# Altium integrated library micro-motorola.IntLib: 92 symbols (part 1 of 2)
Pins are listed as number, name and electrical type; pins without a type are passive.

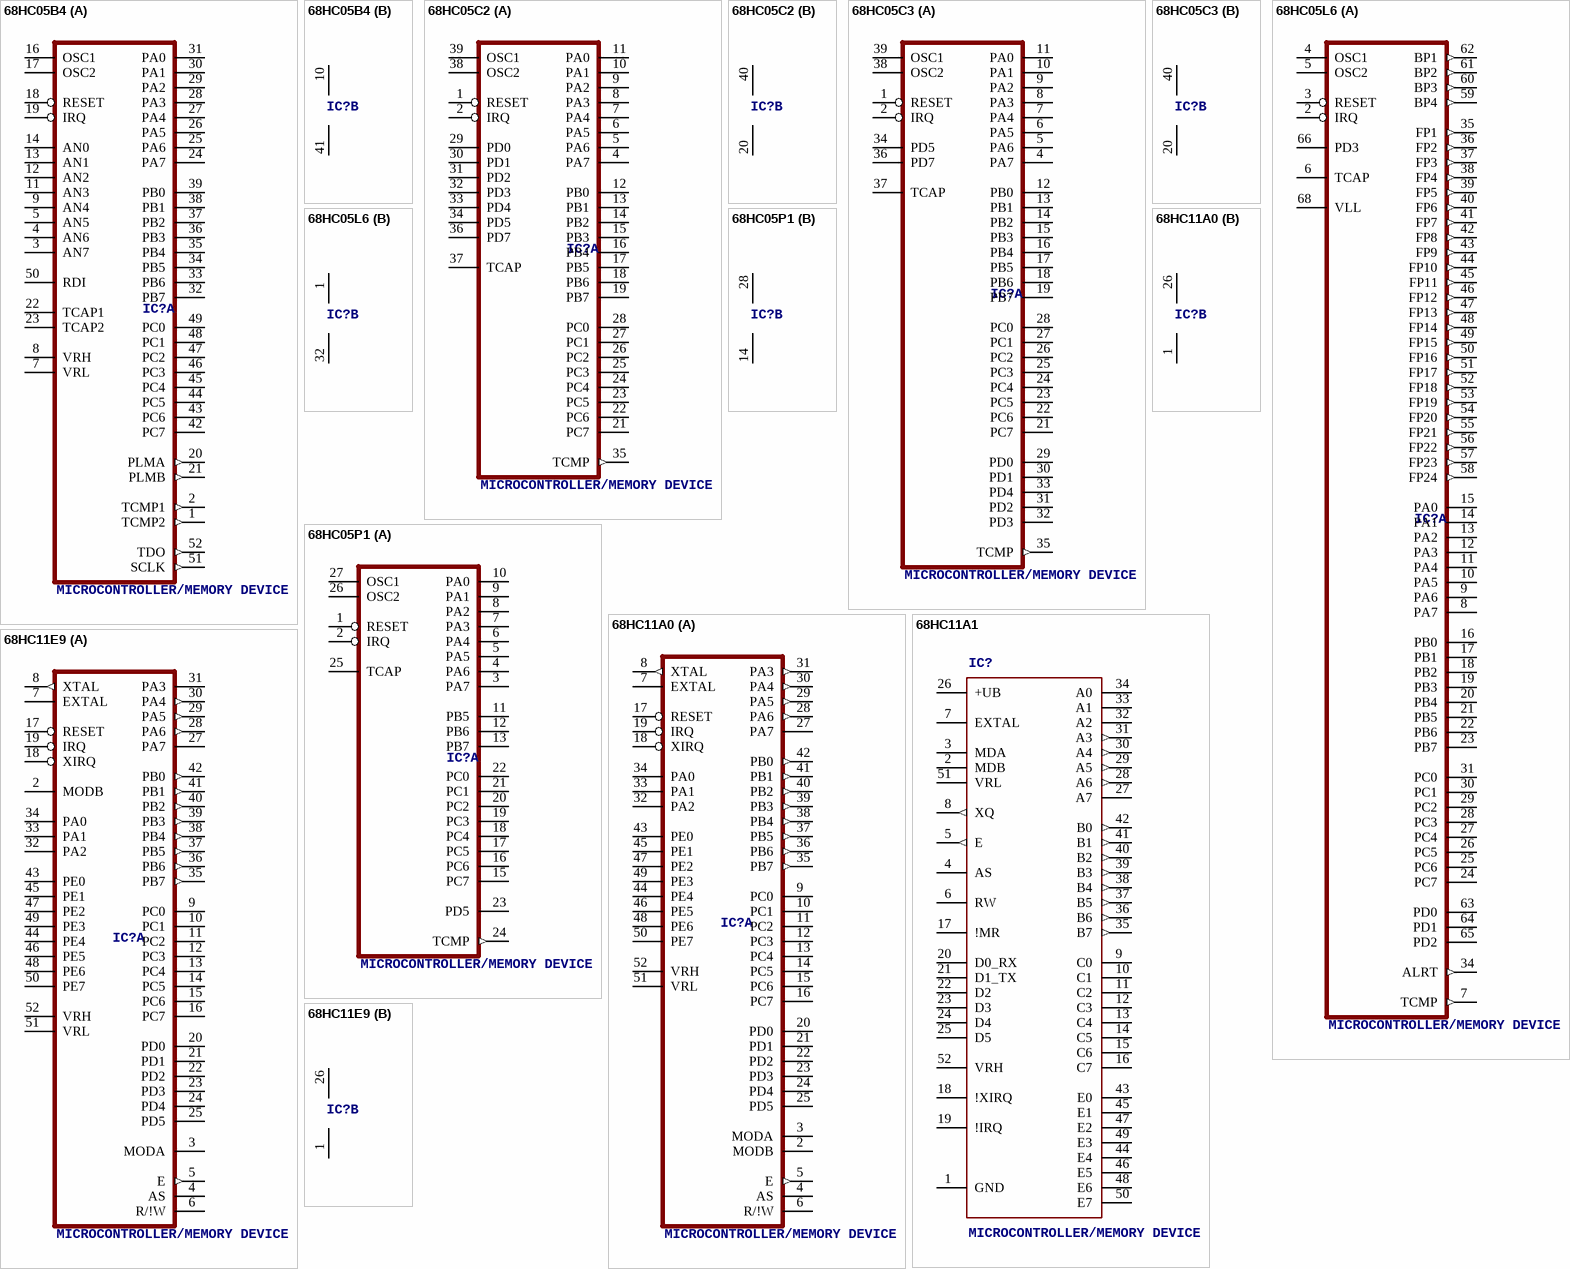
[diagram p0: symbols 68HC05B4 to 68HC11E9]

## 68HC05B4
designator IC?, comment MICROCONTROLLER/MEMORY DEVICE
OC_FARNELL: unknown; OC_NEWARK: unknown
footprint S52
part A pins: 1 TCMP2 (out), 2 TCMP1 (out), 3 AN7, 4 AN6, 5 AN5, 7 VRL, 8 VRH, 9 AN4, 11 AN3, 12 AN2, 13 AN1, 14 AN0, 16 OSC1, 17 OSC2, 18 RESET, 19 IRQ, 20 PLMA (out), 21 PLMB (out), 22 TCAP1, 23 TCAP2, 24 PA7, 25 PA6, 26 PA5, 27 PA4, 28 PA3, 29 PA2, 30 PA1, 31 PA0, 32 PB7, 33 PB6, 34 PB5, 35 PB4, 36 PB3, 37 PB2, 38 PB1, 39 PB0, 42 PC7, 43 PC6, 44 PC5, 45 PC4, 46 PC3, 47 PC2, 48 PC1, 49 PC0, 50 RDI, 51 SCLK (out), 52 TDO (out)
part B pins: 10 VDD (power), 41 VSS (power)

## 68HC05C2
designator IC?, comment MICROCONTROLLER/MEMORY DEVICE
MPN: MC68HC705SR3CPE; MF: MOTOROLA; OC_FARNELL: 1749029; OC_NEWARK: 40K7346
footprint DIL40
part A pins: 1 RESET, 2 IRQ, 4 PA7, 5 PA6, 6 PA5, 7 PA4, 8 PA3, 9 PA2, 10 PA1, 11 PA0, 12 PB0, 13 PB1, 14 PB2, 15 PB3, 16 PB4, 17 PB5, 18 PB6, 19 PB7, 21 PC7, 22 PC6, 23 PC5, 24 PC4, 25 PC3, 26 PC2, 27 PC1, 28 PC0, 29 PD0, 30 PD1, 31 PD2, 32 PD3, 33 PD4, 34 PD5, 35 TCMP (out), 36 PD7, 37 TCAP, 38 OSC2, 39 OSC1
part B pins: 20 VSS (power), 40 VDD (power)

## 68HC05C3
designator IC?, comment MICROCONTROLLER/MEMORY DEVICE
MPN: MCHSC705C8ACPE; OC_FARNELL: 1341713; OC_NEWARK: 70K3039
footprint DIL40
part A pins: 1 RESET, 2 IRQ, 4 PA7, 5 PA6, 6 PA5, 7 PA4, 8 PA3, 9 PA2, 10 PA1, 11 PA0, 12 PB0, 13 PB1, 14 PB2, 15 PB3, 16 PB4, 17 PB5, 18 PB6, 19 PB7, 21 PC7, 22 PC6, 23 PC5, 24 PC4, 25 PC3, 26 PC2, 27 PC1, 28 PC0, 29 PD0, 30 PD1, 31 PD2, 32 PD3, 33 PD4, 34 PD5, 35 TCMP (out), 36 PD7, 37 TCAP, 38 OSC2, 39 OSC1
part B pins: 20 VSS (power), 40 VDD (power)

## 68HC05L6
designator IC?, comment MICROCONTROLLER/MEMORY DEVICE
OC_FARNELL: unknown; OC_NEWARK: unknown
footprint S68
part A pins: 2 IRQ, 3 RESET, 4 OSC1, 5 OSC2, 6 TCAP, 7 TCMP (out), 8 PA7, 9 PA6, 10 PA5, 11 PA4, 12 PA3, 13 PA2, 14 PA1, 15 PA0, 16 PB0, 17 PB1, 18 PB2, 19 PB3, 20 PB4, 21 PB5, 22 PB6, 23 PB7, 24 PC7, 25 PC6, 26 PC5, 27 PC4, 28 PC3, 29 PC2, 30 PC1, 31 PC0, 34 ALRT (out), 35 FP1 (out), 36 FP2 (out), 37 FP3 (out), 38 FP4 (out), 39 FP5 (out), 40 FP6 (out), 41 FP7 (out), 42 FP8 (out), 43 FP9 (out), 44 FP10 (out), 45 FP11 (out), 46 FP12 (out), 47 FP13 (out), 48 FP14 (out), 49 FP15 (out), 50 FP16 (out), 51 FP17 (out), 52 FP18 (out), 53 FP19 (out), 54 FP20 (out), 55 FP21 (out), 56 FP22 (out), 57 FP23 (out), 58 FP24 (out), 59 BP4 (out), 60 BP3 (out), 61 BP2 (out), 62 BP1 (out), 63 PD0, 64 PD1, 65 PD2, 66 PD3, 68 VLL
part B pins: 1 VDD (power), 32 VSS (power)

## 68HC05P1
designator IC?, comment MICROCONTROLLER/MEMORY DEVICE
OC_FARNELL: unknown; OC_NEWARK: unknown
footprint DIL28
part A pins: 1 RESET, 2 IRQ, 3 PA7, 4 PA6, 5 PA5, 6 PA4, 7 PA3, 8 PA2, 9 PA1, 10 PA0, 11 PB5, 12 PB6, 13 PB7, 15 PC7, 16 PC6, 17 PC5, 18 PC4, 19 PC3, 20 PC2, 21 PC1, 22 PC0, 23 PD5, 24 TCMP (out), 25 TCAP, 26 OSC2, 27 OSC1
part B pins: 14 VSS (power), 28 VDD (power)

## 68HC11A0
designator IC?, comment MICROCONTROLLER/MEMORY DEVICE
MPN: MC68HC11A0CFNE3; MF: MOTOROLA; OC_FARNELL: 1749025; OC_NEWARK: 62K4934
footprint S52
part A pins: 2 MODB, 3 MODA, 4 AS, 5 E (out), 6 R/!W, 7 EXTAL, 8 XTAL (out), 9 PC0, 10 PC1, 11 PC2, 12 PC3, 13 PC4, 14 PC5, 15 PC6, 16 PC7, 17 RESET, 18 XIRQ, 19 IRQ, 20 PD0, 21 PD1, 22 PD2, 23 PD3, 24 PD4, 25 PD5, 27 PA7, 28 PA6 (out), 29 PA5 (out), 30 PA4 (out), 31 PA3 (out), 32 PA2, 33 PA1, 34 PA0, 35 PB7 (out), 36 PB6 (out), 37 PB5 (out), 38 PB4 (out), 39 PB3 (out), 40 PB2 (out), 41 PB1 (out), 42 PB0 (out), 43 PE0, 44 PE4, 45 PE1, 46 PE5, 47 PE2, 48 PE6, 49 PE3, 50 PE7, 51 VRL, 52 VRH
part B pins: 1 VSS (power), 26 VDD (power)

## 68HC11A1
designator IC?, comment MICROCONTROLLER/MEMORY DEVICE
MPN: MC68HC11A1CFNE3R; OC_FARNELL: 1821771; OC_NEWARK: 81K2780
footprint PLCC-S52
pins: 1 GND, 2 MDB, 3 MDA, 4 AS, 5 E (out), 6 RW, 7 EXTAL, 8 XQ (out), 9 C0, 10 C1, 11 C2, 12 C3, 13 C4, 14 C5, 15 C6, 16 C7, 17 !MR, 18 !XIRQ, 19 !IRQ, 20 D0_RX, 21 D1_TX, 22 D2, 23 D3, 24 D4, 25 D5, 26 +UB, 27 A7, 28 A6 (out), 29 A5 (out), 30 A4 (out), 31 A3 (out), 32 A2, 33 A1, 34 A0, 35 B7 (out), 36 B6 (out), 37 B5 (out), 38 B4 (out), 39 B3 (out), 40 B2 (out), 41 B1 (out), 42 B0 (out), 43 E0, 44 E4, 45 E1, 46 E5, 47 E2, 48 E6, 49 E3, 50 E7, 51 VRL, 52 VRH

## 68HC11E9
designator IC?, comment MICROCONTROLLER/MEMORY DEVICE
MPN: MC68HC11E9BCFNE2; MF: MOTOROLA; OC_FARNELL: 1607932; OC_NEWARK: 68K9829
footprint S52
part A pins: 2 MODB, 3 MODA, 4 AS, 5 E (out), 6 R/!W, 7 EXTAL, 8 XTAL (out), 9 PC0, 10 PC1, 11 PC2, 12 PC3, 13 PC4, 14 PC5, 15 PC6, 16 PC7, 17 RESET, 18 XIRQ, 19 IRQ, 20 PD0, 21 PD1, 22 PD2, 23 PD3, 24 PD4, 25 PD5, 27 PA7, 28 PA6 (out), 29 PA5 (out), 30 PA4 (out), 31 PA3, 32 PA2, 33 PA1, 34 PA0, 35 PB7 (out), 36 PB6 (out), 37 PB5 (out), 38 PB4 (out), 39 PB3 (out), 40 PB2 (out), 41 PB1 (out), 42 PB0 (out), 43 PE0, 44 PE4, 45 PE1, 46 PE5, 47 PE2, 48 PE6, 49 PE3, 50 PE7, 51 VRL, 52 VRH
part B pins: 1 VSS (power), 26 VDD (power)

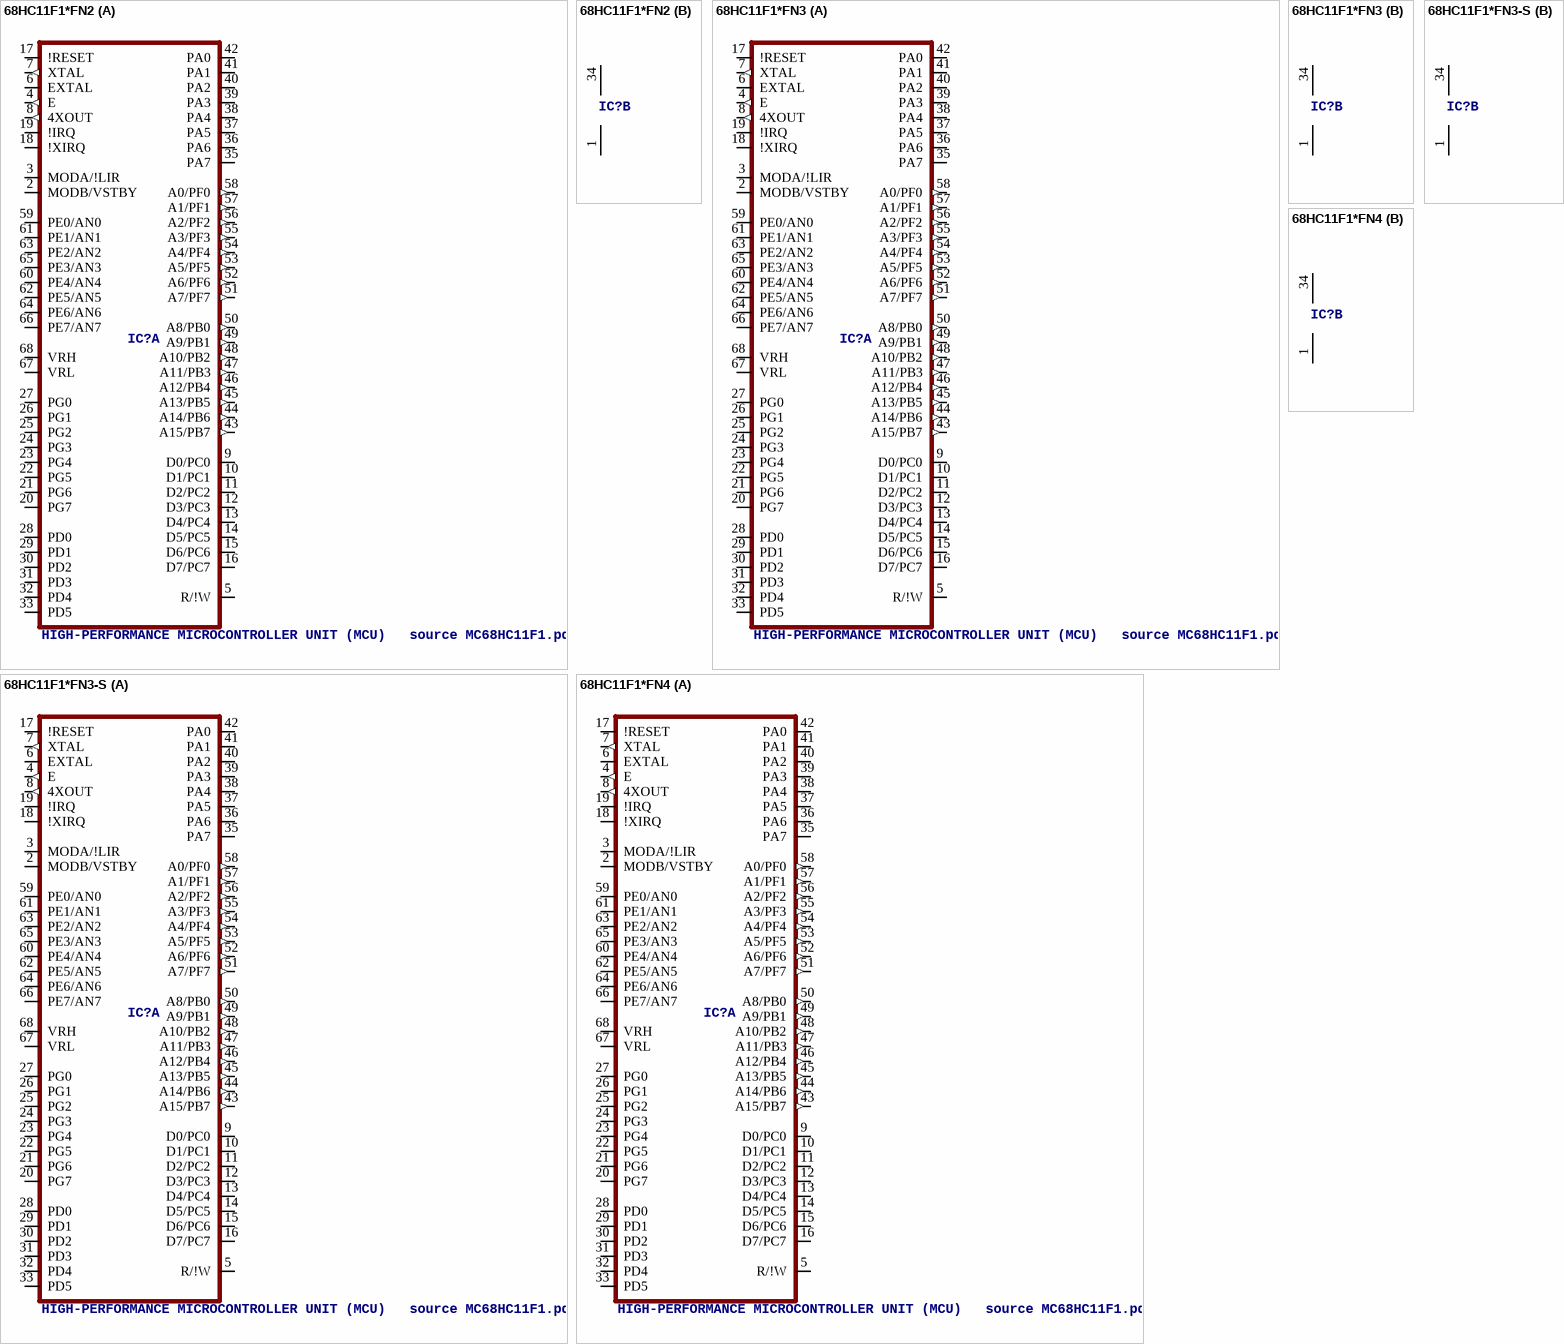
[diagram p1: symbols 68HC11F1*FN2 to 68HC11F1*FN4]

## 68HC11F1*FN2
designator IC?, comment HIGH-PERFORMANCE MICROCONTROLLER UNIT (MCU)   source MC68HC11F1.pdf
MPN: MC68HC11F1CFN2; MF: MOTOROLA; OC_FARNELL: unknown; OC_NEWARK: 95B4396; OC_NEWARK: unknown
footprint PLCC68S
part A pins: 2 MODB/VSTBY, 3 MODA/!LIR, 4 E (out), 5 R/!W, 6 EXTAL, 7 XTAL (out), 8 4XOUT (out), 9 D0/PC0 (hiz), 10 D1/PC1 (hiz), 11 D2/PC2 (hiz), 12 D3/PC3 (hiz), 13 D4/PC4 (hiz), 14 D5/PC5 (hiz), 15 D6/PC6 (hiz), 16 D7/PC7 (hiz), 17 !RESET, 18 !XIRQ, 19 !IRQ, 20 PG7, 21 PG6, 22 PG5, 23 PG4, 24 PG3, 25 PG2, 26 PG1, 27 PG0, 28 PD0, 29 PD1, 30 PD2, 31 PD3, 32 PD4, 33 PD5, 35 PA7, 36 PA6, 37 PA5, 38 PA4, 39 PA3, 40 PA2, 41 PA1, 42 PA0, 43 A15/PB7 (out), 44 A14/PB6 (out), 45 A13/PB5 (out), 46 A12/PB4 (out), 47 A11/PB3 (out), 48 A10/PB2 (out), 49 A9/PB1 (out), 50 A8/PB0 (out), 51 A7/PF7 (out), 52 A6/PF6 (out), 53 A5/PF5 (out), 54 A4/PF4 (out), 55 A3/PF3 (out), 56 A2/PF2 (out), 57 A1/PF1 (out), 58 A0/PF0 (out), 59 PE0/AN0, 60 PE4/AN4, 61 PE1/AN1, 62 PE5/AN5, 63 PE2/AN2, 64 PE6/AN6, 65 PE3/AN3, 66 PE7/AN7, 67 VRL, 68 VRH
part B pins: 1 VSS (power), 34 VDD (power)

## 68HC11F1*FN3
designator IC?, comment HIGH-PERFORMANCE MICROCONTROLLER UNIT (MCU)   source MC68HC11F1.pdf
MPN: MC68HC11F1CFN3; MPN: MC68HC11F1CFN3R2; MF: MOTOROLA; OC_FARNELL: unknown; OC_NEWARK: 07F5741; OC_NEWARK: 07F5742; OC_NEWARK: unknown
footprint PLCC68S
part A pins: 2 MODB/VSTBY, 3 MODA/!LIR, 4 E (out), 5 R/!W, 6 EXTAL, 7 XTAL (out), 8 4XOUT (out), 9 D0/PC0 (hiz), 10 D1/PC1 (hiz), 11 D2/PC2 (hiz), 12 D3/PC3 (hiz), 13 D4/PC4 (hiz), 14 D5/PC5 (hiz), 15 D6/PC6 (hiz), 16 D7/PC7 (hiz), 17 !RESET, 18 !XIRQ, 19 !IRQ, 20 PG7, 21 PG6, 22 PG5, 23 PG4, 24 PG3, 25 PG2, 26 PG1, 27 PG0, 28 PD0, 29 PD1, 30 PD2, 31 PD3, 32 PD4, 33 PD5, 35 PA7, 36 PA6, 37 PA5, 38 PA4, 39 PA3, 40 PA2, 41 PA1, 42 PA0, 43 A15/PB7 (out), 44 A14/PB6 (out), 45 A13/PB5 (out), 46 A12/PB4 (out), 47 A11/PB3 (out), 48 A10/PB2 (out), 49 A9/PB1 (out), 50 A8/PB0 (out), 51 A7/PF7 (out), 52 A6/PF6 (out), 53 A5/PF5 (out), 54 A4/PF4 (out), 55 A3/PF3 (out), 56 A2/PF2 (out), 57 A1/PF1 (out), 58 A0/PF0 (out), 59 PE0/AN0, 60 PE4/AN4, 61 PE1/AN1, 62 PE5/AN5, 63 PE2/AN2, 64 PE6/AN6, 65 PE3/AN3, 66 PE7/AN7, 67 VRL, 68 VRH
part B pins: 1 VSS (power), 34 VDD (power)

## 68HC11F1*FN3-S
designator IC?, comment HIGH-PERFORMANCE MICROCONTROLLER UNIT (MCU)   source MC68HC11F1.pdf
OC_FARNELL: unknown; OC_NEWARK: unknown
footprint S68
part A pins: 2 MODB/VSTBY, 3 MODA/!LIR, 4 E (out), 5 R/!W, 6 EXTAL, 7 XTAL (out), 8 4XOUT (out), 9 D0/PC0 (hiz), 10 D1/PC1 (hiz), 11 D2/PC2 (hiz), 12 D3/PC3 (hiz), 13 D4/PC4 (hiz), 14 D5/PC5 (hiz), 15 D6/PC6 (hiz), 16 D7/PC7 (hiz), 17 !RESET, 18 !XIRQ, 19 !IRQ, 20 PG7, 21 PG6, 22 PG5, 23 PG4, 24 PG3, 25 PG2, 26 PG1, 27 PG0, 28 PD0, 29 PD1, 30 PD2, 31 PD3, 32 PD4, 33 PD5, 35 PA7, 36 PA6, 37 PA5, 38 PA4, 39 PA3, 40 PA2, 41 PA1, 42 PA0, 43 A15/PB7 (out), 44 A14/PB6 (out), 45 A13/PB5 (out), 46 A12/PB4 (out), 47 A11/PB3 (out), 48 A10/PB2 (out), 49 A9/PB1 (out), 50 A8/PB0 (out), 51 A7/PF7 (out), 52 A6/PF6 (out), 53 A5/PF5 (out), 54 A4/PF4 (out), 55 A3/PF3 (out), 56 A2/PF2 (out), 57 A1/PF1 (out), 58 A0/PF0 (out), 59 PE0/AN0, 60 PE4/AN4, 61 PE1/AN1, 62 PE5/AN5, 63 PE2/AN2, 64 PE6/AN6, 65 PE3/AN3, 66 PE7/AN7, 67 VRL, 68 VRH
part B pins: 1 VSS (power), 34 VDD (power)

## 68HC11F1*FN4
designator IC?, comment HIGH-PERFORMANCE MICROCONTROLLER UNIT (MCU)   source MC68HC11F1.pdf
MPN: MC68HC11F1CFN4; MPN: MC68HC11F1MFN4; MF: MOTOROLA; OC_FARNELL: unknown; OC_NEWARK: 07F5743; OC_NEWARK: 92B3680
footprint PLCC68S
part A pins: 2 MODB/VSTBY, 3 MODA/!LIR, 4 E (out), 5 R/!W, 6 EXTAL, 7 XTAL (out), 8 4XOUT (out), 9 D0/PC0 (hiz), 10 D1/PC1 (hiz), 11 D2/PC2 (hiz), 12 D3/PC3 (hiz), 13 D4/PC4 (hiz), 14 D5/PC5 (hiz), 15 D6/PC6 (hiz), 16 D7/PC7 (hiz), 17 !RESET, 18 !XIRQ, 19 !IRQ, 20 PG7, 21 PG6, 22 PG5, 23 PG4, 24 PG3, 25 PG2, 26 PG1, 27 PG0, 28 PD0, 29 PD1, 30 PD2, 31 PD3, 32 PD4, 33 PD5, 35 PA7, 36 PA6, 37 PA5, 38 PA4, 39 PA3, 40 PA2, 41 PA1, 42 PA0, 43 A15/PB7 (out), 44 A14/PB6 (out), 45 A13/PB5 (out), 46 A12/PB4 (out), 47 A11/PB3 (out), 48 A10/PB2 (out), 49 A9/PB1 (out), 50 A8/PB0 (out), 51 A7/PF7 (out), 52 A6/PF6 (out), 53 A5/PF5 (out), 54 A4/PF4 (out), 55 A3/PF3 (out), 56 A2/PF2 (out), 57 A1/PF1 (out), 58 A0/PF0 (out), 59 PE0/AN0, 60 PE4/AN4, 61 PE1/AN1, 62 PE5/AN5, 63 PE2/AN2, 64 PE6/AN6, 65 PE3/AN3, 66 PE7/AN7, 67 VRL, 68 VRH
part B pins: 1 VSS (power), 34 VDD (power)

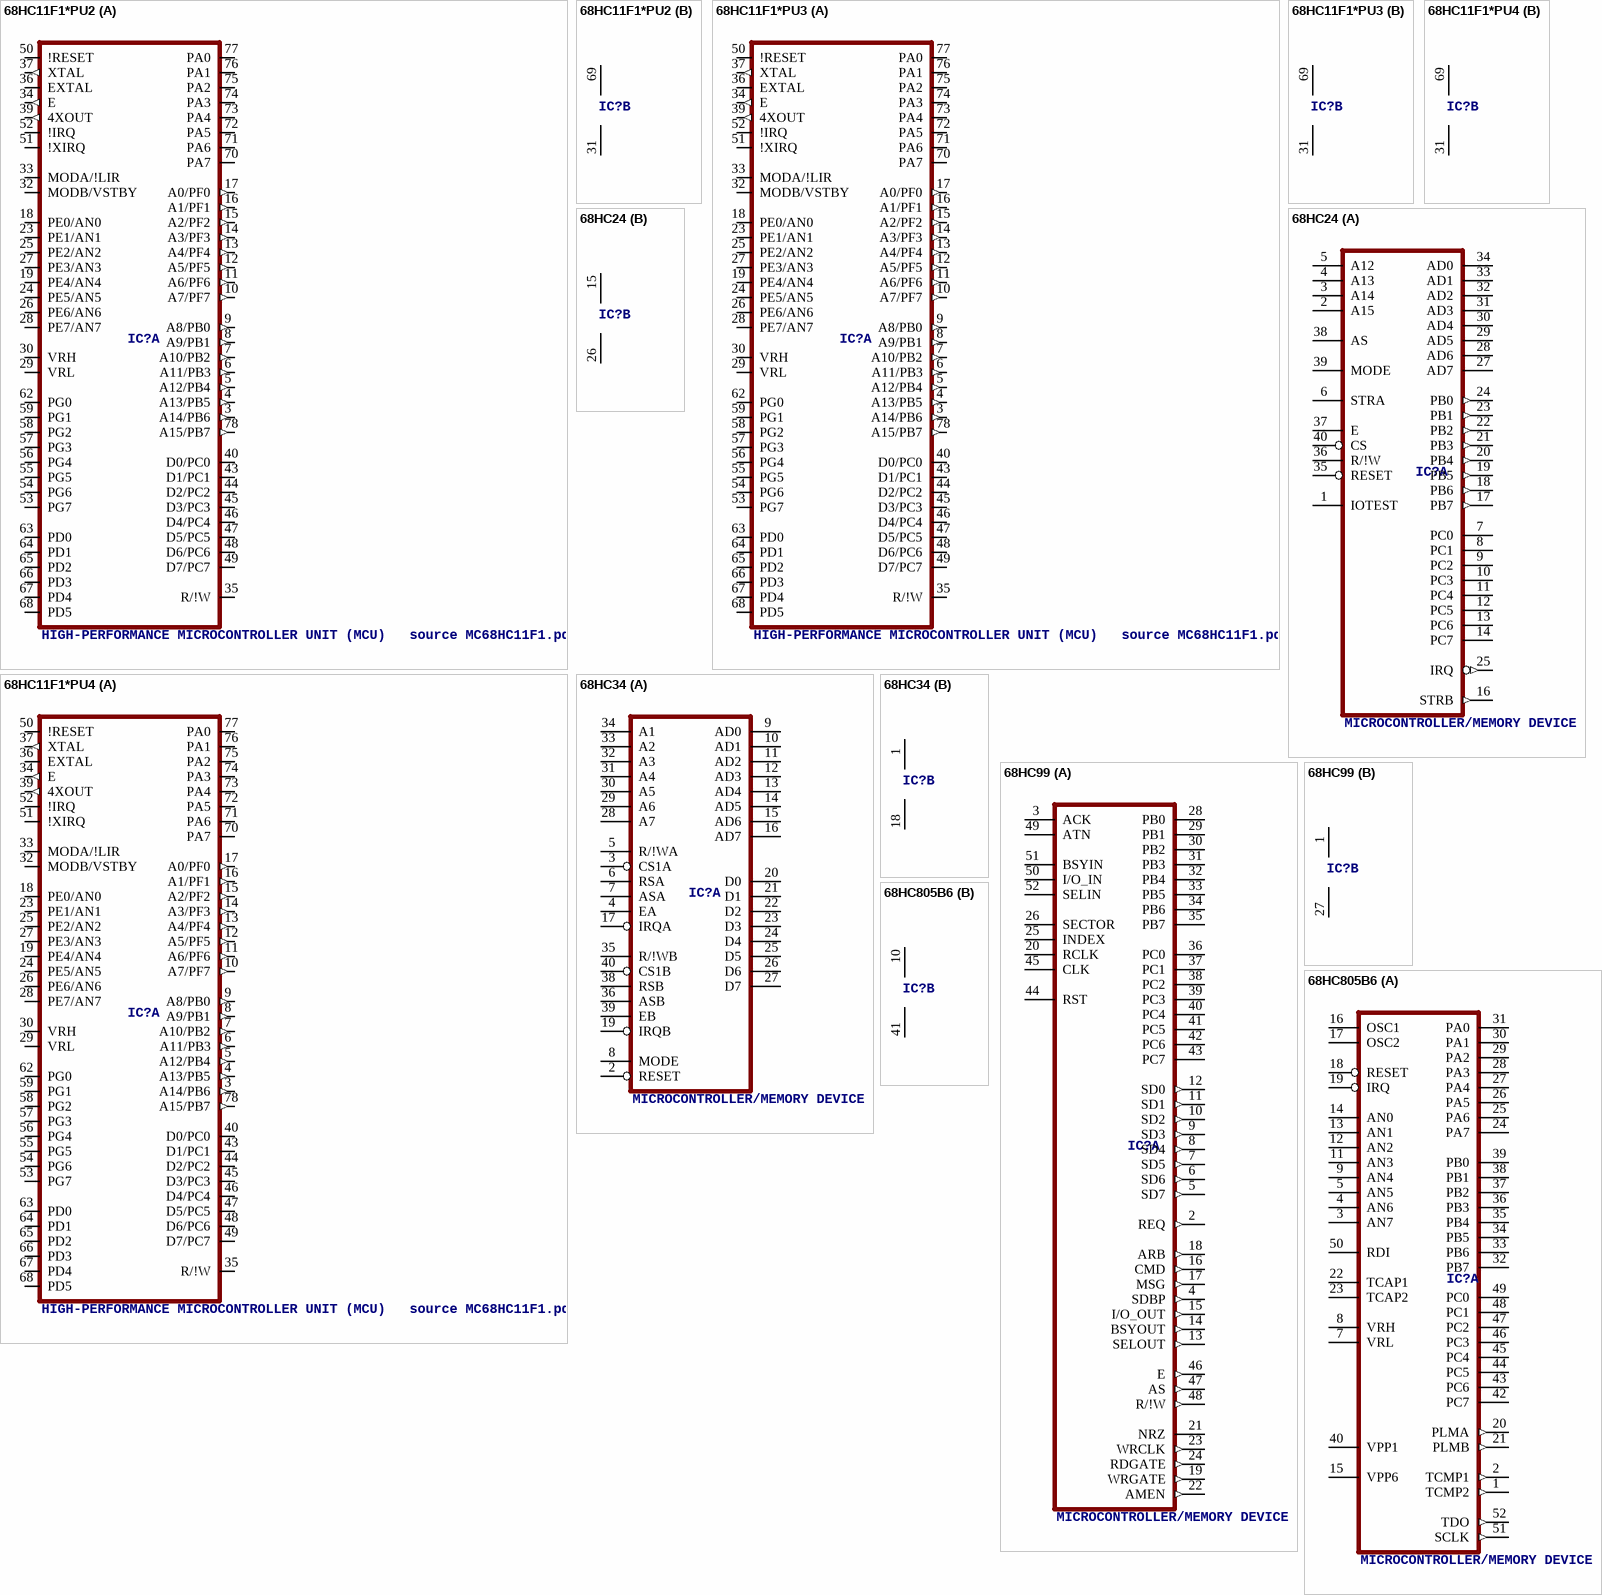
[diagram p2: symbols 68HC11F1*PU2 to 68HC805B6]

## 68HC11F1*PU2
designator IC?, comment HIGH-PERFORMANCE MICROCONTROLLER UNIT (MCU)   source MC68HC11F1.pdf
OC_FARNELL: unknown; OC_NEWARK: unknown
footprint QFP80
part A pins: 3 A14/PB6 (out), 4 A13/PB5 (out), 5 A12/PB4 (out), 6 A11/PB3 (out), 7 A10/PB2 (out), 8 A9/PB1 (out), 9 A8/PB0 (out), 10 A7/PF7 (out), 11 A6/PF6 (out), 12 A5/PF5 (out), 13 A4/PF4 (out), 14 A3/PF3 (out), 15 A2/PF2 (out), 16 A1/PF1 (out), 17 A0/PF0 (out), 18 PE0/AN0, 19 PE4/AN4, 23 PE1/AN1, 24 PE5/AN5, 25 PE2/AN2, 26 PE6/AN6, 27 PE3/AN3, 28 PE7/AN7, 29 VRL, 30 VRH, 32 MODB/VSTBY, 33 MODA/!LIR, 34 E (out), 35 R/!W, 36 EXTAL, 37 XTAL (out), 39 4XOUT (out), 40 D0/PC0 (hiz), 43 D1/PC1 (hiz), 44 D2/PC2 (hiz), 45 D3/PC3 (hiz), 46 D4/PC4 (hiz), 47 D5/PC5 (hiz), 48 D6/PC6 (hiz), 49 D7/PC7 (hiz), 50 !RESET, 51 !XIRQ, 52 !IRQ, 53 PG7, 54 PG6, 55 PG5, 56 PG4, 57 PG3, 58 PG2, 59 PG1, 62 PG0, 63 PD0, 64 PD1, 65 PD2, 66 PD3, 67 PD4, 68 PD5, 70 PA7, 71 PA6, 72 PA5, 73 PA4, 74 PA3, 75 PA2, 76 PA1, 77 PA0, 78 A15/PB7 (out)
part B pins: 31 VSS (power), 69 VDD (power)

## 68HC11F1*PU3
designator IC?, comment HIGH-PERFORMANCE MICROCONTROLLER UNIT (MCU)   source MC68HC11F1.pdf
OC_FARNELL: unknown; OC_NEWARK: unknown
footprint QFP80
part A pins: 3 A14/PB6 (out), 4 A13/PB5 (out), 5 A12/PB4 (out), 6 A11/PB3 (out), 7 A10/PB2 (out), 8 A9/PB1 (out), 9 A8/PB0 (out), 10 A7/PF7 (out), 11 A6/PF6 (out), 12 A5/PF5 (out), 13 A4/PF4 (out), 14 A3/PF3 (out), 15 A2/PF2 (out), 16 A1/PF1 (out), 17 A0/PF0 (out), 18 PE0/AN0, 19 PE4/AN4, 23 PE1/AN1, 24 PE5/AN5, 25 PE2/AN2, 26 PE6/AN6, 27 PE3/AN3, 28 PE7/AN7, 29 VRL, 30 VRH, 32 MODB/VSTBY, 33 MODA/!LIR, 34 E (out), 35 R/!W, 36 EXTAL, 37 XTAL (out), 39 4XOUT (out), 40 D0/PC0 (hiz), 43 D1/PC1 (hiz), 44 D2/PC2 (hiz), 45 D3/PC3 (hiz), 46 D4/PC4 (hiz), 47 D5/PC5 (hiz), 48 D6/PC6 (hiz), 49 D7/PC7 (hiz), 50 !RESET, 51 !XIRQ, 52 !IRQ, 53 PG7, 54 PG6, 55 PG5, 56 PG4, 57 PG3, 58 PG2, 59 PG1, 62 PG0, 63 PD0, 64 PD1, 65 PD2, 66 PD3, 67 PD4, 68 PD5, 70 PA7, 71 PA6, 72 PA5, 73 PA4, 74 PA3, 75 PA2, 76 PA1, 77 PA0, 78 A15/PB7 (out)
part B pins: 31 VSS (power), 69 VDD (power)

## 68HC11F1*PU4
designator IC?, comment HIGH-PERFORMANCE MICROCONTROLLER UNIT (MCU)   source MC68HC11F1.pdf
OC_FARNELL: unknown; OC_NEWARK: unknown
footprint QFP80
part A pins: 3 A14/PB6 (out), 4 A13/PB5 (out), 5 A12/PB4 (out), 6 A11/PB3 (out), 7 A10/PB2 (out), 8 A9/PB1 (out), 9 A8/PB0 (out), 10 A7/PF7 (out), 11 A6/PF6 (out), 12 A5/PF5 (out), 13 A4/PF4 (out), 14 A3/PF3 (out), 15 A2/PF2 (out), 16 A1/PF1 (out), 17 A0/PF0 (out), 18 PE0/AN0, 19 PE4/AN4, 23 PE1/AN1, 24 PE5/AN5, 25 PE2/AN2, 26 PE6/AN6, 27 PE3/AN3, 28 PE7/AN7, 29 VRL, 30 VRH, 32 MODB/VSTBY, 33 MODA/!LIR, 34 E (out), 35 R/!W, 36 EXTAL, 37 XTAL (out), 39 4XOUT (out), 40 D0/PC0 (hiz), 43 D1/PC1 (hiz), 44 D2/PC2 (hiz), 45 D3/PC3 (hiz), 46 D4/PC4 (hiz), 47 D5/PC5 (hiz), 48 D6/PC6 (hiz), 49 D7/PC7 (hiz), 50 !RESET, 51 !XIRQ, 52 !IRQ, 53 PG7, 54 PG6, 55 PG5, 56 PG4, 57 PG3, 58 PG2, 59 PG1, 62 PG0, 63 PD0, 64 PD1, 65 PD2, 66 PD3, 67 PD4, 68 PD5, 70 PA7, 71 PA6, 72 PA5, 73 PA4, 74 PA3, 75 PA2, 76 PA1, 77 PA0, 78 A15/PB7 (out)
part B pins: 31 VSS (power), 69 VDD (power)

## 68HC24
designator IC?, comment MICROCONTROLLER/MEMORY DEVICE
OC_FARNELL: unknown; OC_NEWARK: unknown
footprint DIL40
part A pins: 1 IOTEST, 2 A15, 3 A14, 4 A13, 5 A12, 6 STRA, 7 PC0, 8 PC1, 9 PC2, 10 PC3, 11 PC4, 12 PC5, 13 PC6, 14 PC7, 16 STRB (out), 17 PB7 (out), 18 PB6 (out), 19 PB5 (out), 20 PB4 (out), 21 PB3 (out), 22 PB2 (out), 23 PB1 (out), 24 PB0 (out), 25 IRQ (out), 27 AD7, 28 AD6, 29 AD5, 30 AD4, 31 AD3, 32 AD2, 33 AD1, 34 AD0, 35 RESET, 36 R/!W, 37 E, 38 AS, 39 MODE, 40 CS
part B pins: 15 VDD (power), 26 VSS (power)

## 68HC34
designator IC?, comment MICROCONTROLLER/MEMORY DEVICE
OC_FARNELL: unknown; OC_NEWARK: unknown
footprint DIL40
part A pins: 2 RESET, 3 CS1A, 4 EA, 5 R/!WA, 6 RSA, 7 ASA, 8 MODE, 9 AD0, 10 AD1, 11 AD2, 12 AD3, 13 AD4, 14 AD5, 15 AD6, 16 AD7, 17 IRQA, 19 IRQB, 20 D0, 21 D1, 22 D2, 23 D3, 24 D4, 25 D5, 26 D6, 27 D7, 28 A7, 29 A6, 30 A5, 31 A4, 32 A3, 33 A2, 34 A1, 35 R/!WB, 36 ASB, 38 RSB, 39 EB, 40 CS1B
part B pins: 1 VCC (power), 18 VSS (power)

## 68HC99
designator IC?, comment MICROCONTROLLER/MEMORY DEVICE
OC_FARNELL: unknown; OC_NEWARK: unknown
footprint S52
part A pins: 2 REQ (out), 3 ACK, 4 SDBP (out), 5 SD7 (out), 6 SD6 (out), 7 SD5 (out), 8 SD4 (out), 9 SD3 (out), 10 SD2 (out), 11 SD1 (out), 12 SD0 (out), 13 SELOUT (out), 14 BSYOUT (out), 15 I/O_OUT (out), 16 CMD (out), 17 MSG (out), 18 ARB (out), 19 WRGATE (out), 20 RCLK, 21 NRZ, 22 AMEN (out), 23 WRCLK (out), 24 RDGATE (out), 25 INDEX, 26 SECTOR, 28 PB0, 29 PB1, 30 PB2, 31 PB3, 32 PB4, 33 PB5, 34 PB6, 35 PB7, 36 PC0, 37 PC1, 38 PC2, 39 PC3, 40 PC4, 41 PC5, 42 PC6, 43 PC7, 44 RST, 45 CLK, 46 E (out), 47 AS (out), 48 R/!W (out), 49 ATN, 50 I/O_IN, 51 BSYIN, 52 SELIN
part B pins: 1 VDD (power), 27 VSS (power)

## 68HC805B6
designator IC?, comment MICROCONTROLLER/MEMORY DEVICE
OC_FARNELL: unknown; OC_NEWARK: unknown
footprint S52
part A pins: 1 TCMP2 (out), 2 TCMP1 (out), 3 AN7, 4 AN6, 5 AN5, 7 VRL, 8 VRH, 9 AN4, 11 AN3, 12 AN2, 13 AN1, 14 AN0, 15 VPP6 (power), 16 OSC1, 17 OSC2, 18 RESET, 19 IRQ, 20 PLMA (out), 21 PLMB (out), 22 TCAP1, 23 TCAP2, 24 PA7, 25 PA6, 26 PA5, 27 PA4, 28 PA3, 29 PA2, 30 PA1, 31 PA0, 32 PB7, 33 PB6, 34 PB5, 35 PB4, 36 PB3, 37 PB2, 38 PB1, 39 PB0, 40 VPP1 (power), 42 PC7, 43 PC6, 44 PC5, 45 PC4, 46 PC3, 47 PC2, 48 PC1, 49 PC0, 50 RDI, 51 SCLK (out), 52 TDO (out)
part B pins: 10 VDD (power), 41 VSS (power)

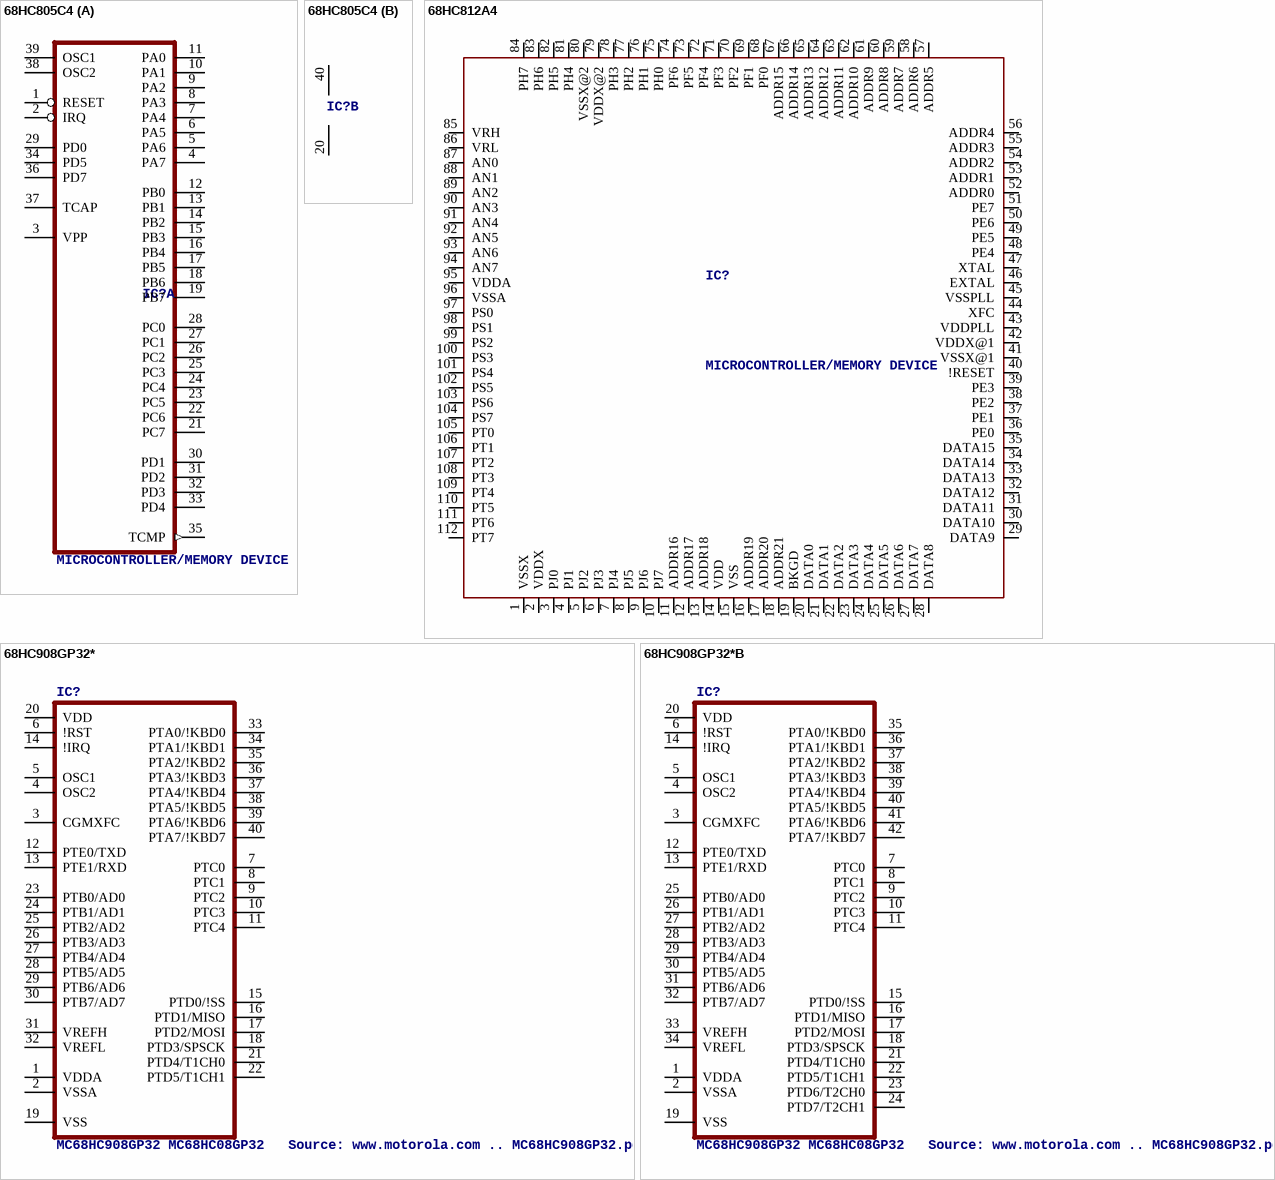
[diagram p3: symbols 68HC805C4 to 68HC908GP32*B]

## 68HC805C4
designator IC?, comment MICROCONTROLLER/MEMORY DEVICE
OC_FARNELL: unknown; OC_NEWARK: unknown
footprint DIL40
part A pins: 1 RESET, 2 IRQ, 3 VPP, 4 PA7, 5 PA6, 6 PA5, 7 PA4, 8 PA3, 9 PA2, 10 PA1, 11 PA0, 12 PB0, 13 PB1, 14 PB2, 15 PB3, 16 PB4, 17 PB5, 18 PB6, 19 PB7, 21 PC7, 22 PC6, 23 PC5, 24 PC4, 25 PC3, 26 PC2, 27 PC1, 28 PC0, 29 PD0, 30 PD1, 31 PD2, 32 PD3, 33 PD4, 34 PD5, 35 TCMP (out), 36 PD7, 37 TCAP, 38 OSC2, 39 OSC1
part B pins: 20 VSS (power), 40 VDD (power)

## 68HC812A4
designator IC?, comment MICROCONTROLLER/MEMORY DEVICE
MPN: MC68HC812A4CPV8; MF: MOTOROLA; OC_FARNELL: unknown; OC_NEWARK: 70C4455
footprint TQFP112
pins: 1 VSSX (power), 2 VDDX (power), 3 PJ0, 4 PJ1, 5 PJ2, 6 PJ3, 7 PJ4, 8 PJ5, 9 PJ6, 10 PJ7, 11 ADDR16, 12 ADDR17, 13 ADDR18, 14 VDD (power), 15 VSS (power), 16 ADDR19, 17 ADDR20, 18 ADDR21, 19 BKGD, 20 DATA0, 21 DATA1, 22 DATA2, 23 DATA3, 24 DATA4, 25 DATA5, 26 DATA6, 27 DATA7, 28 DATA8, 29 DATA9, 30 DATA10, 31 DATA11, 32 DATA12, 33 DATA13, 34 DATA14, 35 DATA15, 36 PE0, 37 PE1, 38 PE2, 39 PE3, 40 !RESET, 41 VSSX@1 (power), 42 VDDX@1 (power), 43 VDDPLL, 44 XFC, 45 VSSPLL, 46 EXTAL, 47 XTAL, 48 PE4, 49 PE5, 50 PE6, 51 PE7, 52 ADDR0, 53 ADDR1, 54 ADDR2, 55 ADDR3, 56 ADDR4, 57 ADDR5, 58 ADDR6, 59 ADDR7, 60 ADDR8, 61 ADDR9, 62 ADDR10, 63 ADDR11, 64 ADDR12, 65 ADDR13, 66 ADDR14, 67 ADDR15, 68 PF0, 69 PF1, 70 PF2, 71 PF3, 72 PF4, 73 PF5, 74 PF6, 75 PH0, 76 PH1, 77 PH2, 78 PH3, 79 VDDX@2 (power), 80 VSSX@2 (power), 81 PH4, 82 PH5, 83 PH6, 84 PH7, 85 VRH, 86 VRL, 87 AN0, 88 AN1, 89 AN2, 90 AN3, 91 AN4, 92 AN5, 93 AN6, 94 AN7, 95 VDDA (power), 96 VSSA (power), 97 PS0, 98 PS1, 99 PS2, 100 PS3, 101 PS4, 102 PS5, 103 PS6, 104 PS7, 105 PT0, 106 PT1, 107 PT2, 108 PT3, 109 PT4, 110 PT5, 111 PT6, 112 PT7

## 68HC908GP32*
designator IC?, comment MC68HC908GP32 MC68HC08GP32   Source: www.motorola.com .. MC68HC908GP32.pdf
MPN: MC68HC908GP32CP; MF: MOTOROLA; OC_FARNELL: 1200519; OC_NEWARK: 95B4407
footprint DIL40
pins: 1 VDDA (power), 2 VSSA (power), 3 CGMXFC, 4 OSC2, 5 OSC1, 6 !RST, 7 PTC0, 8 PTC1, 9 PTC2, 10 PTC3, 11 PTC4, 12 PTE0/TXD, 13 PTE1/RXD, 14 !IRQ, 15 PTD0/!SS, 16 PTD1/MISO, 17 PTD2/MOSI, 18 PTD3/SPSCK, 19 VSS (power), 20 VDD (power), 21 PTD4/T1CH0, 22 PTD5/T1CH1, 23 PTB0/AD0, 24 PTB1/AD1, 25 PTB2/AD2, 26 PTB3/AD3, 27 PTB4/AD4, 28 PTB5/AD5, 29 PTB6/AD6, 30 PTB7/AD7, 31 VREFH, 32 VREFL, 33 PTA0/!KBD0, 34 PTA1/!KBD1, 35 PTA2/!KBD2, 36 PTA3/!KBD3, 37 PTA4/!KBD4, 38 PTA5/!KBD5, 39 PTA6/!KBD6, 40 PTA7/!KBD7

## 68HC908GP32*B
designator IC?, comment MC68HC908GP32 MC68HC08GP32   Source: www.motorola.com .. MC68HC908GP32.pdf
MPN: MC68HC908GP32CB; MF: MOTOROLA; OC_FARNELL: 1200520; OC_NEWARK: 75C2312; OC_FARNELL: unknown
footprint DIL42
pins: 1 VDDA (power), 2 VSSA (power), 3 CGMXFC, 4 OSC2, 5 OSC1, 6 !RST, 7 PTC0, 8 PTC1, 9 PTC2, 10 PTC3, 11 PTC4, 12 PTE0/TXD, 13 PTE1/RXD, 14 !IRQ, 15 PTD0/!SS, 16 PTD1/MISO, 17 PTD2/MOSI, 18 PTD3/SPSCK, 19 VSS (power), 20 VDD (power), 21 PTD4/T1CH0, 22 PTD5/T1CH1, 23 PTD6/T2CH0, 24 PTD7/T2CH1, 25 PTB0/AD0, 26 PTB1/AD1, 27 PTB2/AD2, 28 PTB3/AD3, 29 PTB4/AD4, 30 PTB5/AD5, 31 PTB6/AD6, 32 PTB7/AD7, 33 VREFH, 34 VREFL, 35 PTA0/!KBD0, 36 PTA1/!KBD1, 37 PTA2/!KBD2, 38 PTA3/!KBD3, 39 PTA4/!KBD4, 40 PTA5/!KBD5, 41 PTA6/!KBD6, 42 PTA7/!KBD7

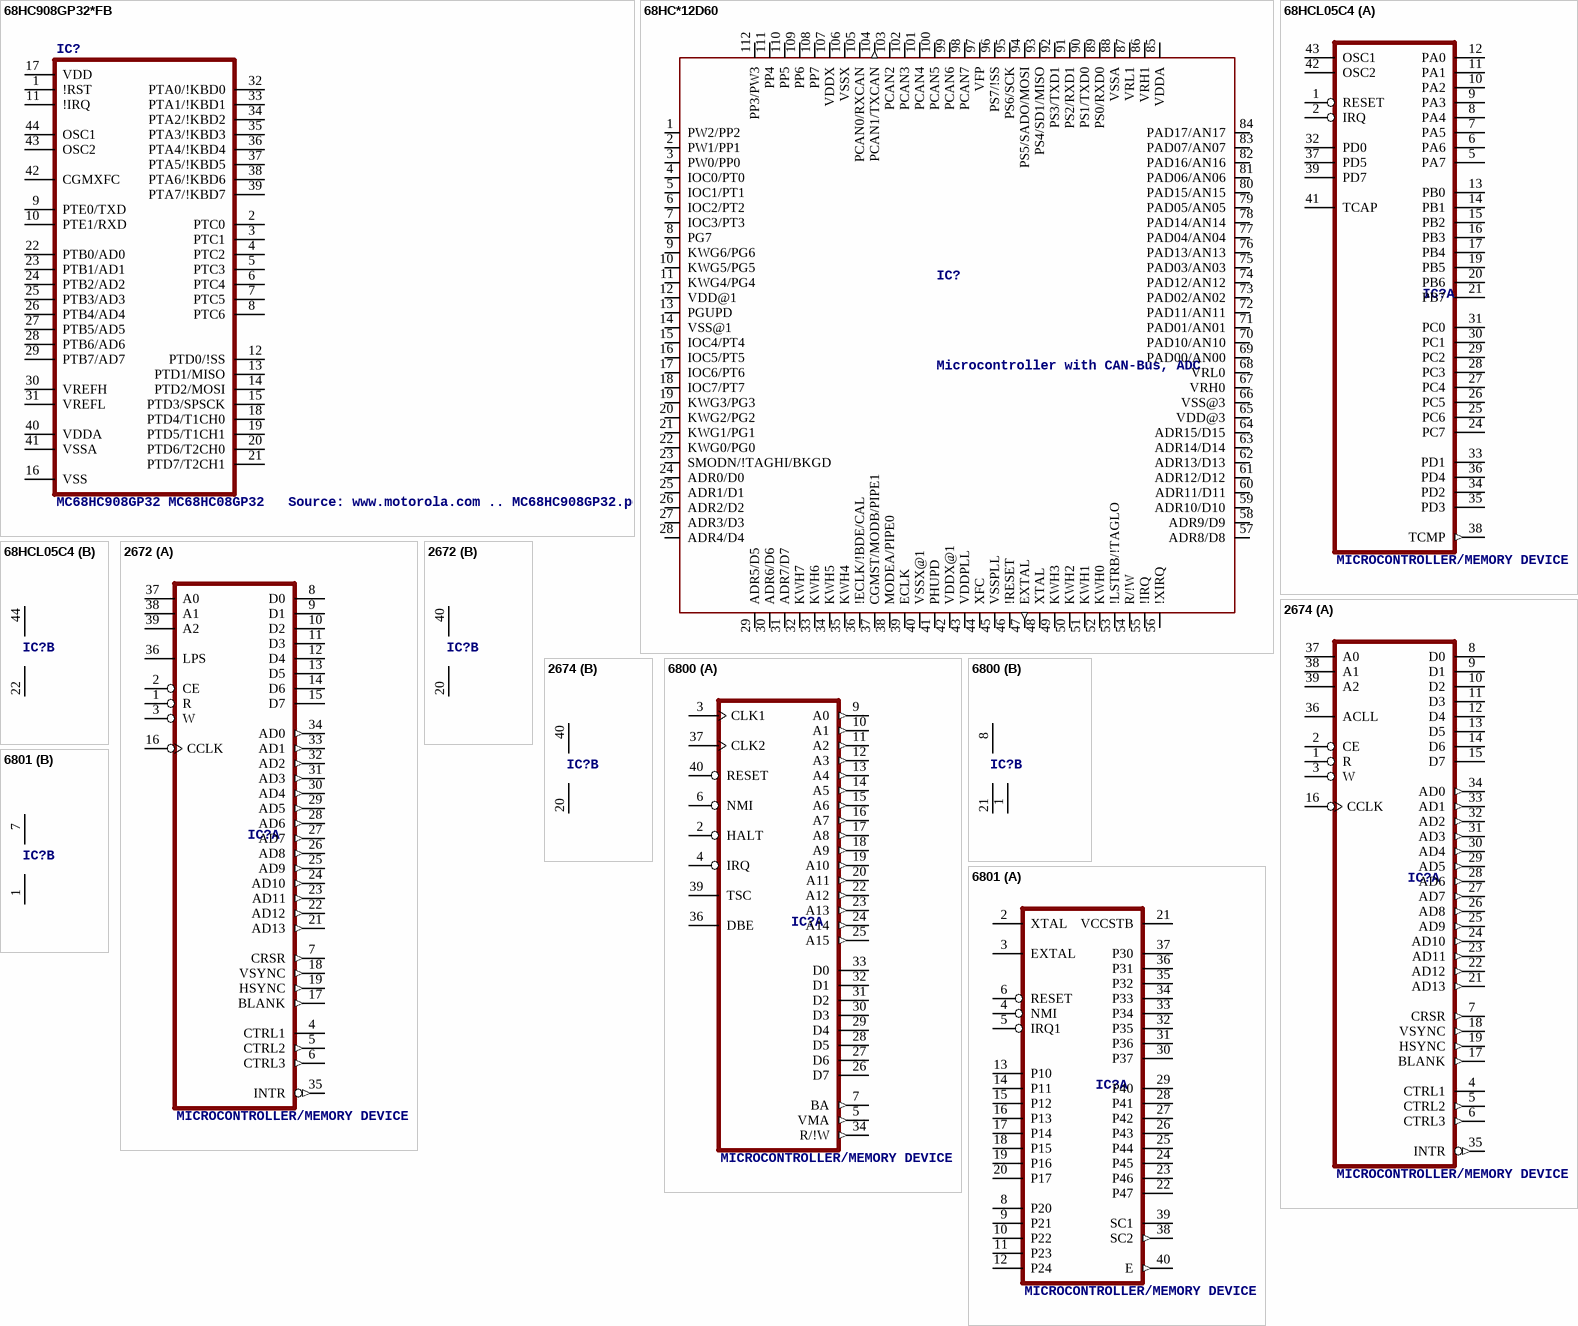
[diagram p4: symbols 68HC908GP32*FB to 6801]

## 68HC908GP32*FB
designator IC?, comment MC68HC908GP32 MC68HC08GP32   Source: www.motorola.com .. MC68HC908GP32.pdf
MPN: MC68HC908GP32CFB; MF: MOTOROLA; OC_FARNELL: unknown; OC_NEWARK: 02C6745; OC_NEWARK: unknown
footprint SQFP-S-10X10-44
pins: 1 !RST, 2 PTC0, 3 PTC1, 4 PTC2, 5 PTC3, 6 PTC4, 7 PTC5, 8 PTC6, 9 PTE0/TXD, 10 PTE1/RXD, 11 !IRQ, 12 PTD0/!SS, 13 PTD1/MISO, 14 PTD2/MOSI, 15 PTD3/SPSCK, 16 VSS (power), 17 VDD (power), 18 PTD4/T1CH0, 19 PTD5/T1CH1, 20 PTD6/T2CH0, 21 PTD7/T2CH1, 22 PTB0/AD0, 23 PTB1/AD1, 24 PTB2/AD2, 25 PTB3/AD3, 26 PTB4/AD4, 27 PTB5/AD5, 28 PTB6/AD6, 29 PTB7/AD7, 30 VREFH, 31 VREFL, 32 PTA0/!KBD0, 33 PTA1/!KBD1, 34 PTA2/!KBD2, 35 PTA3/!KBD3, 36 PTA4/!KBD4, 37 PTA5/!KBD5, 38 PTA6/!KBD6, 39 PTA7/!KBD7, 40 VDDA (power), 41 VSSA (power), 42 CGMXFC, 43 OSC2, 44 OSC1

## 68HC*12D60
designator IC?, comment Microcontroller with CAN-Bus, ADC
OC_FARNELL: unknown; OC_NEWARK: unknown
footprint TQFP112
pins: 1 PW2/PP2, 2 PW1/PP1, 3 PW0/PP0, 4 IOC0/PT0, 5 IOC1/PT1, 6 IOC2/PT2, 7 IOC3/PT3, 8 PG7, 9 KWG6/PG6, 10 KWG5/PG5, 11 KWG4/PG4, 12 VDD@1 (power), 13 PGUPD, 14 VSS@1 (power), 15 IOC4/PT4, 16 IOC5/PT5, 17 IOC6/PT6, 18 IOC7/PT7, 19 KWG3/PG3, 20 KWG2/PG2, 21 KWG1/PG1, 22 KWG0/PG0, 23 SMODN/!TAGHI/BKGD, 24 ADR0/D0, 25 ADR1/D1, 26 ADR2/D2, 27 ADR3/D3, 28 ADR4/D4, 29 ADR5/D5, 30 ADR6/D6, 31 ADR7/D7, 32 KWH7, 33 KWH6, 34 KWH5, 35 KWH4, 36 !ECLK/!BDE/CAL, 37 CGMST/MODB/PIPE1, 38 MODEA/PIPE0, 39 ECLK, 40 VSSX@1 (power), 41 PHUPD, 42 VDDX@1 (power), 43 VDDPLL (power), 44 XFC, 45 VSSPLL (power), 46 !RESET, 47 EXTAL (out), 48 XTAL, 49 KWH3, 50 KWH2, 51 KWH1, 52 KWH0, 53 !LSTRB/!TAGLO, 54 R/!W, 55 !IRQ, 56 !XIRQ, 57 ADR8/D8, 58 ADR9/D9, 59 ADR10/D10, 60 ADR11/D11, 61 ADR12/D12, 62 ADR13/D13, 63 ADR14/D14, 64 ADR15/D15, 65 VDD@3 (power), 66 VSS@3 (power), 67 VRH0 (power), 68 VRL0 (power), 69 PAD00/AN00, 70 PAD10/AN10, 71 PAD01/AN01, 72 PAD11/AN11, 73 PAD02/AN02, 74 PAD12/AN12, 75 PAD03/AN03, 76 PAD13/AN13, 77 PAD04/AN04, 78 PAD14/AN14, 79 PAD05/AN05, 80 PAD15/AN15, 81 PAD06/AN06, 82 PAD16/AN16, 83 PAD07/AN07, 84 PAD17/AN17, 85 VDDA (power), 86 VRH1 (power), 87 VRL1 (power), 88 VSSA (power), 89 PS0/RXD0, 90 PS1/TXD0, 91 PS2/RXD1, 92 PS3/TXD1, 93 PS4/SD1/MISO, 94 PS5/SADO/MOSI, 95 PS6/SCK, 96 PS7/!SS, 97 VFP, 98 PCAN7, 99 PCAN6, 100 PCAN5, 101 PCAN4, 102 PCAN3, 103 PCAN2, 104 PCAN1/TXCAN (out), 105 PCAN0/RXCAN, 106 VSSX (power), 107 VDDX (power), 108 PP7, 109 PP6, 110 PP5, 111 PP4, 112 PP3/PW3

## 68HCL05C4
designator IC?, comment MICROCONTROLLER/MEMORY DEVICE
OC_FARNELL: unknown; OC_NEWARK: unknown
footprint S44
part A pins: 1 RESET, 2 IRQ, 5 PA7, 6 PA6, 7 PA5, 8 PA4, 9 PA3, 10 PA2, 11 PA1, 12 PA0, 13 PB0, 14 PB1, 15 PB2, 16 PB3, 17 PB4, 19 PB5, 20 PB6, 21 PB7, 24 PC7, 25 PC6, 26 PC5, 27 PC4, 28 PC3, 29 PC2, 30 PC1, 31 PC0, 32 PD0, 33 PD1, 34 PD2, 35 PD3, 36 PD4, 37 PD5, 38 TCMP (out), 39 PD7, 41 TCAP, 42 OSC2, 43 OSC1
part B pins: 22 VSS (power), 44 VDD (power)

## 2672
designator IC?, comment MICROCONTROLLER/MEMORY DEVICE
OC_FARNELL: unknown; OC_NEWARK: unknown
footprint DIL40
part A pins: 1 R, 2 CE, 3 W, 4 CTRL1, 5 CTRL2 (out), 6 CTRL3 (out), 7 CRSR (out), 8 D0, 9 D1, 10 D2, 11 D3, 12 D4, 13 D5, 14 D6, 15 D7, 16 CCLK, 17 BLANK (out), 18 VSYNC (out), 19 HSYNC (out), 21 AD13 (out), 22 AD12 (out), 23 AD11 (out), 24 AD10 (out), 25 AD9 (out), 26 AD8 (out), 27 AD7 (out), 28 AD6 (out), 29 AD5 (out), 30 AD4 (out), 31 AD3 (out), 32 AD2 (out), 33 AD1 (out), 34 AD0 (out), 35 INTR (out), 36 LPS, 37 A0, 38 A1, 39 A2
part B pins: 20 GND (power), 40 VCC (power)

## 2674
designator IC?, comment MICROCONTROLLER/MEMORY DEVICE
OC_FARNELL: unknown; OC_NEWARK: unknown
footprint DIL40
part A pins: 1 R, 2 CE, 3 W, 4 CTRL1, 5 CTRL2 (out), 6 CTRL3 (out), 7 CRSR (out), 8 D0, 9 D1, 10 D2, 11 D3, 12 D4, 13 D5, 14 D6, 15 D7, 16 CCLK, 17 BLANK (out), 18 VSYNC (out), 19 HSYNC (out), 21 AD13 (out), 22 AD12 (out), 23 AD11 (out), 24 AD10 (out), 25 AD9 (out), 26 AD8 (out), 27 AD7 (out), 28 AD6 (out), 29 AD5 (out), 30 AD4 (out), 31 AD3 (out), 32 AD2 (out), 33 AD1 (out), 34 AD0 (out), 35 INTR (out), 36 ACLL, 37 A0, 38 A1, 39 A2
part B pins: 20 GND (power), 40 VCC (power)

## 6800
designator IC?, comment MICROCONTROLLER/MEMORY DEVICE
MPN: NTE6800; MF: NTE ELECTRONICS; OC_FARNELL: unknown; OC_NEWARK: 31C5317
footprint DIL40
part A pins: 2 HALT, 3 CLK1, 4 IRQ, 5 VMA (out), 6 NMI, 7 BA (out), 9 A0 (out), 10 A1 (out), 11 A2 (out), 12 A3 (out), 13 A4 (out), 14 A5 (out), 15 A6 (out), 16 A7 (out), 17 A8 (out), 18 A9 (out), 19 A10 (out), 20 A11 (out), 22 A12 (out), 23 A13 (out), 24 A14 (out), 25 A15 (out), 26 D7, 27 D6, 28 D5, 29 D4, 30 D3, 31 D2, 32 D1, 33 D0, 34 R/!W (out), 36 DBE, 37 CLK2, 39 TSC, 40 RESET
part B pins: 1 VSS@1 (power), 8 VCC (power), 21 VSS@2 (power)

## 6801
designator IC?, comment MICROCONTROLLER/MEMORY DEVICE
OC_FARNELL: unknown; OC_NEWARK: unknown
footprint DIL40
part A pins: 2 XTAL, 3 EXTAL, 4 NMI, 5 IRQ1, 6 RESET, 8 P20, 9 P21, 10 P22, 11 P23, 12 P24, 13 P10, 14 P11, 15 P12, 16 P13, 17 P14, 18 P15, 19 P16, 20 P17, 21 VCCSTB, 22 P47, 23 P46, 24 P45, 25 P44, 26 P43, 27 P42, 28 P41, 29 P40, 30 P37, 31 P36, 32 P35, 33 P34, 34 P33, 35 P32, 36 P31, 37 P30, 38 SC2 (out), 39 SC1, 40 E (out)
part B pins: 1 VSS (power), 7 VCC (power)

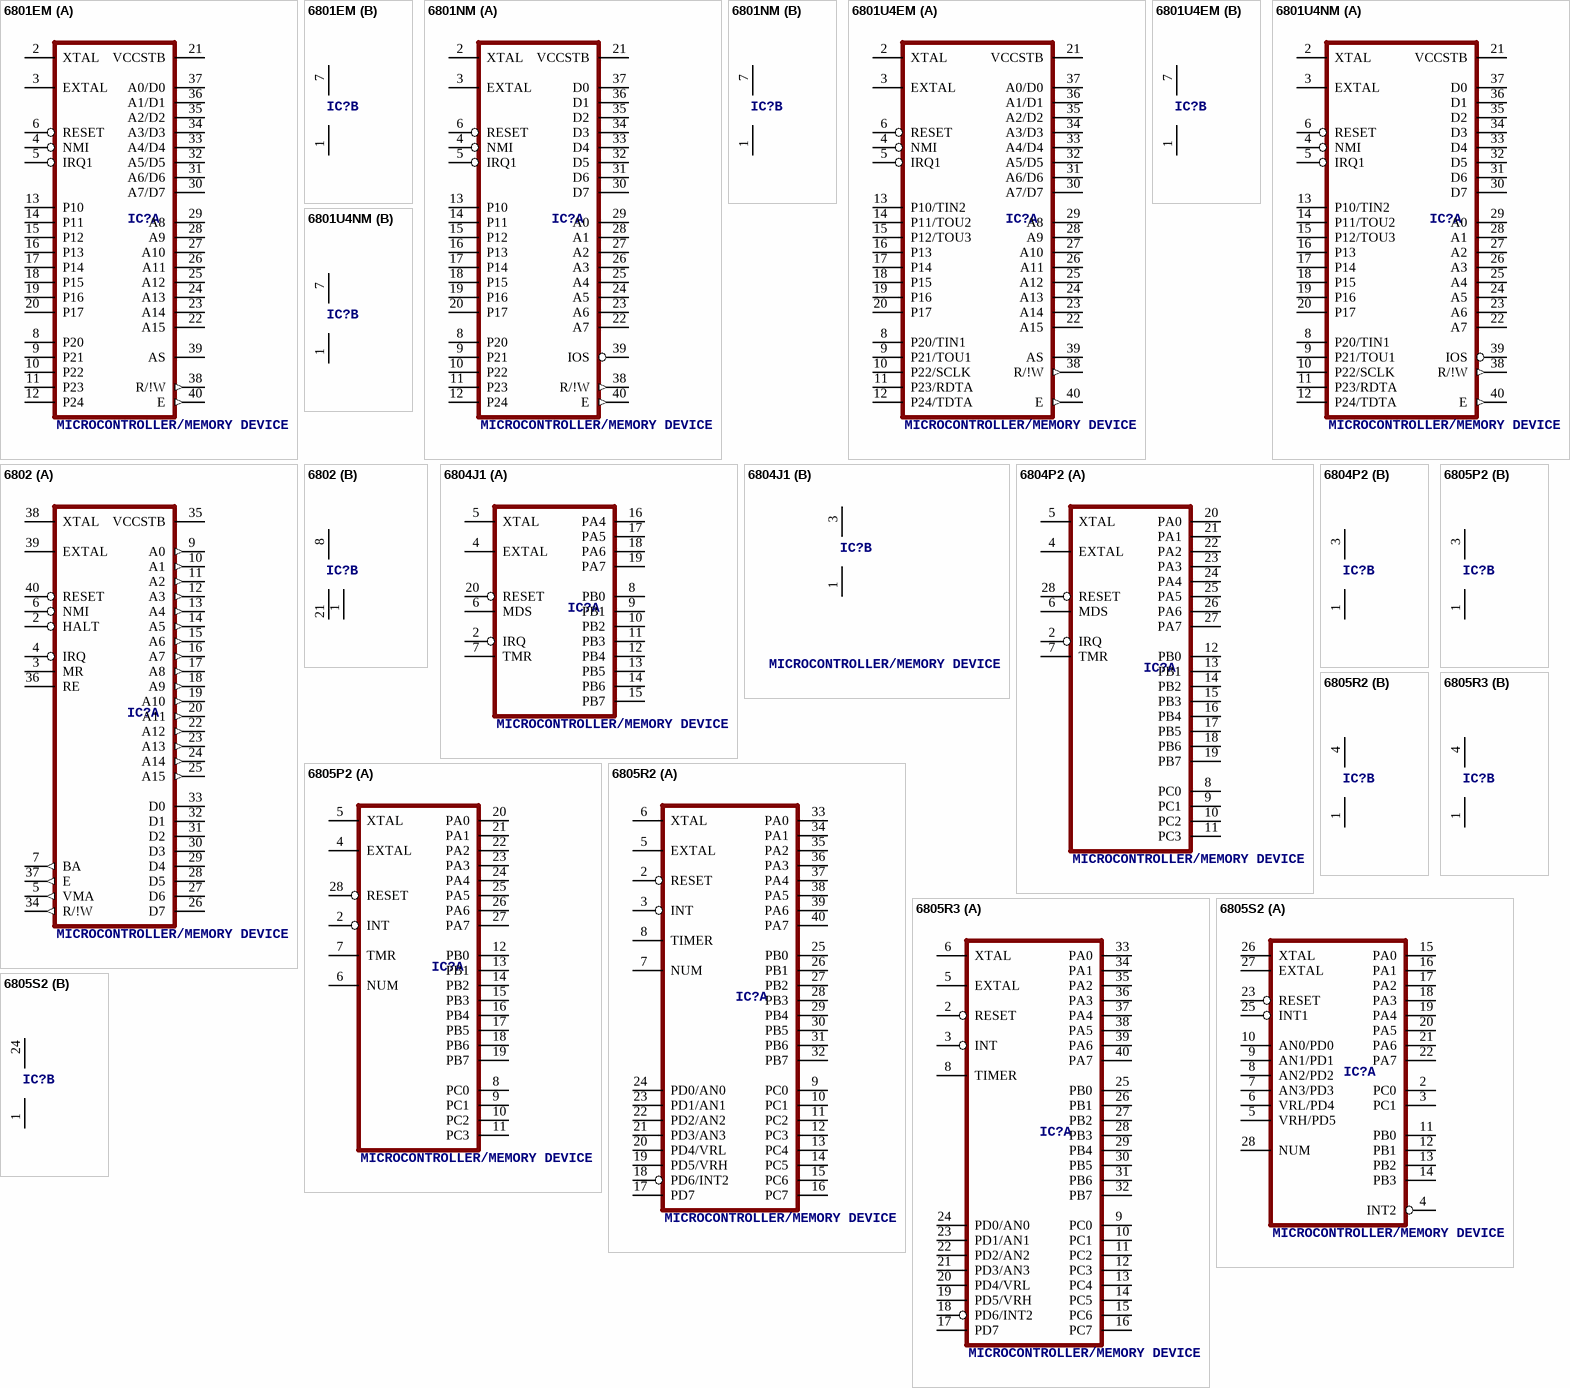
[diagram p5: symbols 6801EM to 6805S2]

## 6801EM
designator IC?, comment MICROCONTROLLER/MEMORY DEVICE
OC_FARNELL: unknown; OC_NEWARK: unknown
footprint DIL40
part A pins: 2 XTAL, 3 EXTAL, 4 NMI, 5 IRQ1, 6 RESET, 8 P20, 9 P21, 10 P22, 11 P23, 12 P24, 13 P10, 14 P11, 15 P12, 16 P13, 17 P14, 18 P15, 19 P16, 20 P17, 21 VCCSTB, 22 A15, 23 A14, 24 A13, 25 A12, 26 A11, 27 A10, 28 A9, 29 A8, 30 A7/D7, 31 A6/D6, 32 A5/D5, 33 A4/D4, 34 A3/D3, 35 A2/D2, 36 A1/D1, 37 A0/D0, 38 R/!W (out), 39 AS, 40 E (out)
part B pins: 1 VSS (power), 7 VCC (power)

## 6801NM
designator IC?, comment MICROCONTROLLER/MEMORY DEVICE
OC_FARNELL: unknown; OC_NEWARK: unknown
footprint DIL40
part A pins: 2 XTAL, 3 EXTAL, 4 NMI, 5 IRQ1, 6 RESET, 8 P20, 9 P21, 10 P22, 11 P23, 12 P24, 13 P10, 14 P11, 15 P12, 16 P13, 17 P14, 18 P15, 19 P16, 20 P17, 21 VCCSTB, 22 A7, 23 A6, 24 A5, 25 A4, 26 A3, 27 A2, 28 A1, 29 A0, 30 D7, 31 D6, 32 D5, 33 D4, 34 D3, 35 D2, 36 D1, 37 D0, 38 R/!W (out), 39 IOS, 40 E (out)
part B pins: 1 VSS (power), 7 VCC (power)

## 6801U4EM
designator IC?, comment MICROCONTROLLER/MEMORY DEVICE
OC_FARNELL: unknown; OC_NEWARK: unknown
footprint DIL40
part A pins: 2 XTAL, 3 EXTAL, 4 NMI, 5 IRQ1, 6 RESET, 8 P20/TIN1, 9 P21/TOU1, 10 P22/SCLK, 11 P23/RDTA, 12 P24/TDTA, 13 P10/TIN2, 14 P11/TOU2, 15 P12/TOU3, 16 P13, 17 P14, 18 P15, 19 P16, 20 P17, 21 VCCSTB, 22 A15, 23 A14, 24 A13, 25 A12, 26 A11, 27 A10, 28 A9, 29 A8, 30 A7/D7, 31 A6/D6, 32 A5/D5, 33 A4/D4, 34 A3/D3, 35 A2/D2, 36 A1/D1, 37 A0/D0, 38 R/!W (out), 39 AS, 40 E (out)
part B pins: 1 VSS (power), 7 VCC (power)

## 6801U4NM
designator IC?, comment MICROCONTROLLER/MEMORY DEVICE
OC_FARNELL: unknown; OC_NEWARK: unknown
footprint DIL40
part A pins: 2 XTAL, 3 EXTAL, 4 NMI, 5 IRQ1, 6 RESET, 8 P20/TIN1, 9 P21/TOU1, 10 P22/SCLK, 11 P23/RDTA, 12 P24/TDTA, 13 P10/TIN2, 14 P11/TOU2, 15 P12/TOU3, 16 P13, 17 P14, 18 P15, 19 P16, 20 P17, 21 VCCSTB, 22 A7, 23 A6, 24 A5, 25 A4, 26 A3, 27 A2, 28 A1, 29 A0, 30 D7, 31 D6, 32 D5, 33 D4, 34 D3, 35 D2, 36 D1, 37 D0, 38 R/!W (out), 39 IOS, 40 E (out)
part B pins: 1 VSS (power), 7 VCC (power)

## 6802
designator IC?, comment MICROCONTROLLER/MEMORY DEVICE
OC_FARNELL: unknown; OC_NEWARK: unknown
footprint DIL40
part A pins: 2 HALT, 3 MR, 4 IRQ, 5 VMA (out), 6 NMI, 7 BA (out), 9 A0 (out), 10 A1 (out), 11 A2 (out), 12 A3 (out), 13 A4 (out), 14 A5 (out), 15 A6 (out), 16 A7 (out), 17 A8 (out), 18 A9 (out), 19 A10 (out), 20 A11 (out), 22 A12 (out), 23 A13 (out), 24 A14 (out), 25 A15 (out), 26 D7, 27 D6, 28 D5, 29 D4, 30 D3, 31 D2, 32 D1, 33 D0, 34 R/!W (out), 35 VCCSTB, 36 RE, 37 E (out), 38 XTAL, 39 EXTAL, 40 RESET
part B pins: 1 VSS@1 (power), 8 VCC (power), 21 VSS@2 (power)

## 6804J1
designator IC?, comment MICROCONTROLLER/MEMORY DEVICE
OC_FARNELL: unknown; OC_NEWARK: unknown
footprint DIL20
part A pins: 2 IRQ, 4 EXTAL, 5 XTAL, 6 MDS, 7 TMR, 8 PB0, 9 PB1, 10 PB2, 11 PB3, 12 PB4, 13 PB5, 14 PB6, 15 PB7, 16 PA4, 17 PA5, 18 PA6, 19 PA7, 20 RESET
part B pins: 1 VSS (power), 3 VCC (power)

## 6804P2
designator IC?, comment MICROCONTROLLER/MEMORY DEVICE
OC_FARNELL: unknown; OC_NEWARK: unknown
footprint DIL28
part A pins: 2 IRQ, 4 EXTAL, 5 XTAL, 6 MDS, 7 TMR, 8 PC0, 9 PC1, 10 PC2, 11 PC3, 12 PB0, 13 PB1, 14 PB2, 15 PB3, 16 PB4, 17 PB5, 18 PB6, 19 PB7, 20 PA0, 21 PA1, 22 PA2, 23 PA3, 24 PA4, 25 PA5, 26 PA6, 27 PA7, 28 RESET
part B pins: 1 VSS (power), 3 VCC (power)

## 6805P2
designator IC?, comment MICROCONTROLLER/MEMORY DEVICE
OC_FARNELL: unknown; OC_NEWARK: unknown
footprint DIL28
part A pins: 2 INT, 4 EXTAL, 5 XTAL, 6 NUM, 7 TMR, 8 PC0, 9 PC1, 10 PC2, 11 PC3, 12 PB0, 13 PB1, 14 PB2, 15 PB3, 16 PB4, 17 PB5, 18 PB6, 19 PB7, 20 PA0, 21 PA1, 22 PA2, 23 PA3, 24 PA4, 25 PA5, 26 PA6, 27 PA7, 28 RESET
part B pins: 1 VSS (power), 3 VCC (power)

## 6805R2
designator IC?, comment MICROCONTROLLER/MEMORY DEVICE
OC_FARNELL: unknown; OC_NEWARK: unknown
footprint DIL40
part A pins: 2 RESET, 3 INT, 5 EXTAL, 6 XTAL, 7 NUM, 8 TIMER, 9 PC0, 10 PC1, 11 PC2, 12 PC3, 13 PC4, 14 PC5, 15 PC6, 16 PC7, 17 PD7, 18 PD6/INT2, 19 PD5/VRH, 20 PD4/VRL, 21 PD3/AN3, 22 PD2/AN2, 23 PD1/AN1, 24 PD0/AN0, 25 PB0, 26 PB1, 27 PB2, 28 PB3, 29 PB4, 30 PB5, 31 PB6, 32 PB7, 33 PA0, 34 PA1, 35 PA2, 36 PA3, 37 PA4, 38 PA5, 39 PA6, 40 PA7
part B pins: 1 VSS (power), 4 VCC (power)

## 6805R3
designator IC?, comment MICROCONTROLLER/MEMORY DEVICE
OC_FARNELL: unknown; OC_NEWARK: unknown
footprint DIL40
part A pins: 2 RESET, 3 INT, 5 EXTAL, 6 XTAL, 8 TIMER, 9 PC0, 10 PC1, 11 PC2, 12 PC3, 13 PC4, 14 PC5, 15 PC6, 16 PC7, 17 PD7, 18 PD6/INT2, 19 PD5/VRH, 20 PD4/VRL, 21 PD3/AN3, 22 PD2/AN2, 23 PD1/AN1, 24 PD0/AN0, 25 PB0, 26 PB1, 27 PB2, 28 PB3, 29 PB4, 30 PB5, 31 PB6, 32 PB7, 33 PA0, 34 PA1, 35 PA2, 36 PA3, 37 PA4, 38 PA5, 39 PA6, 40 PA7
part B pins: 1 VSS (power), 4 VCC (power)

## 6805S2
designator IC?, comment MICROCONTROLLER/MEMORY DEVICE
OC_FARNELL: unknown; OC_NEWARK: unknown
footprint DIL28
part A pins: 2 PC0, 3 PC1, 4 INT2, 5 VRH/PD5, 6 VRL/PD4, 7 AN3/PD3, 8 AN2/PD2, 9 AN1/PD1, 10 AN0/PD0, 11 PB0, 12 PB1, 13 PB2, 14 PB3, 15 PA0, 16 PA1, 17 PA2, 18 PA3, 19 PA4, 20 PA5, 21 PA6, 22 PA7, 23 RESET, 25 INT1, 26 XTAL, 27 EXTAL, 28 NUM
part B pins: 1 VSS (power), 24 VDD (power)

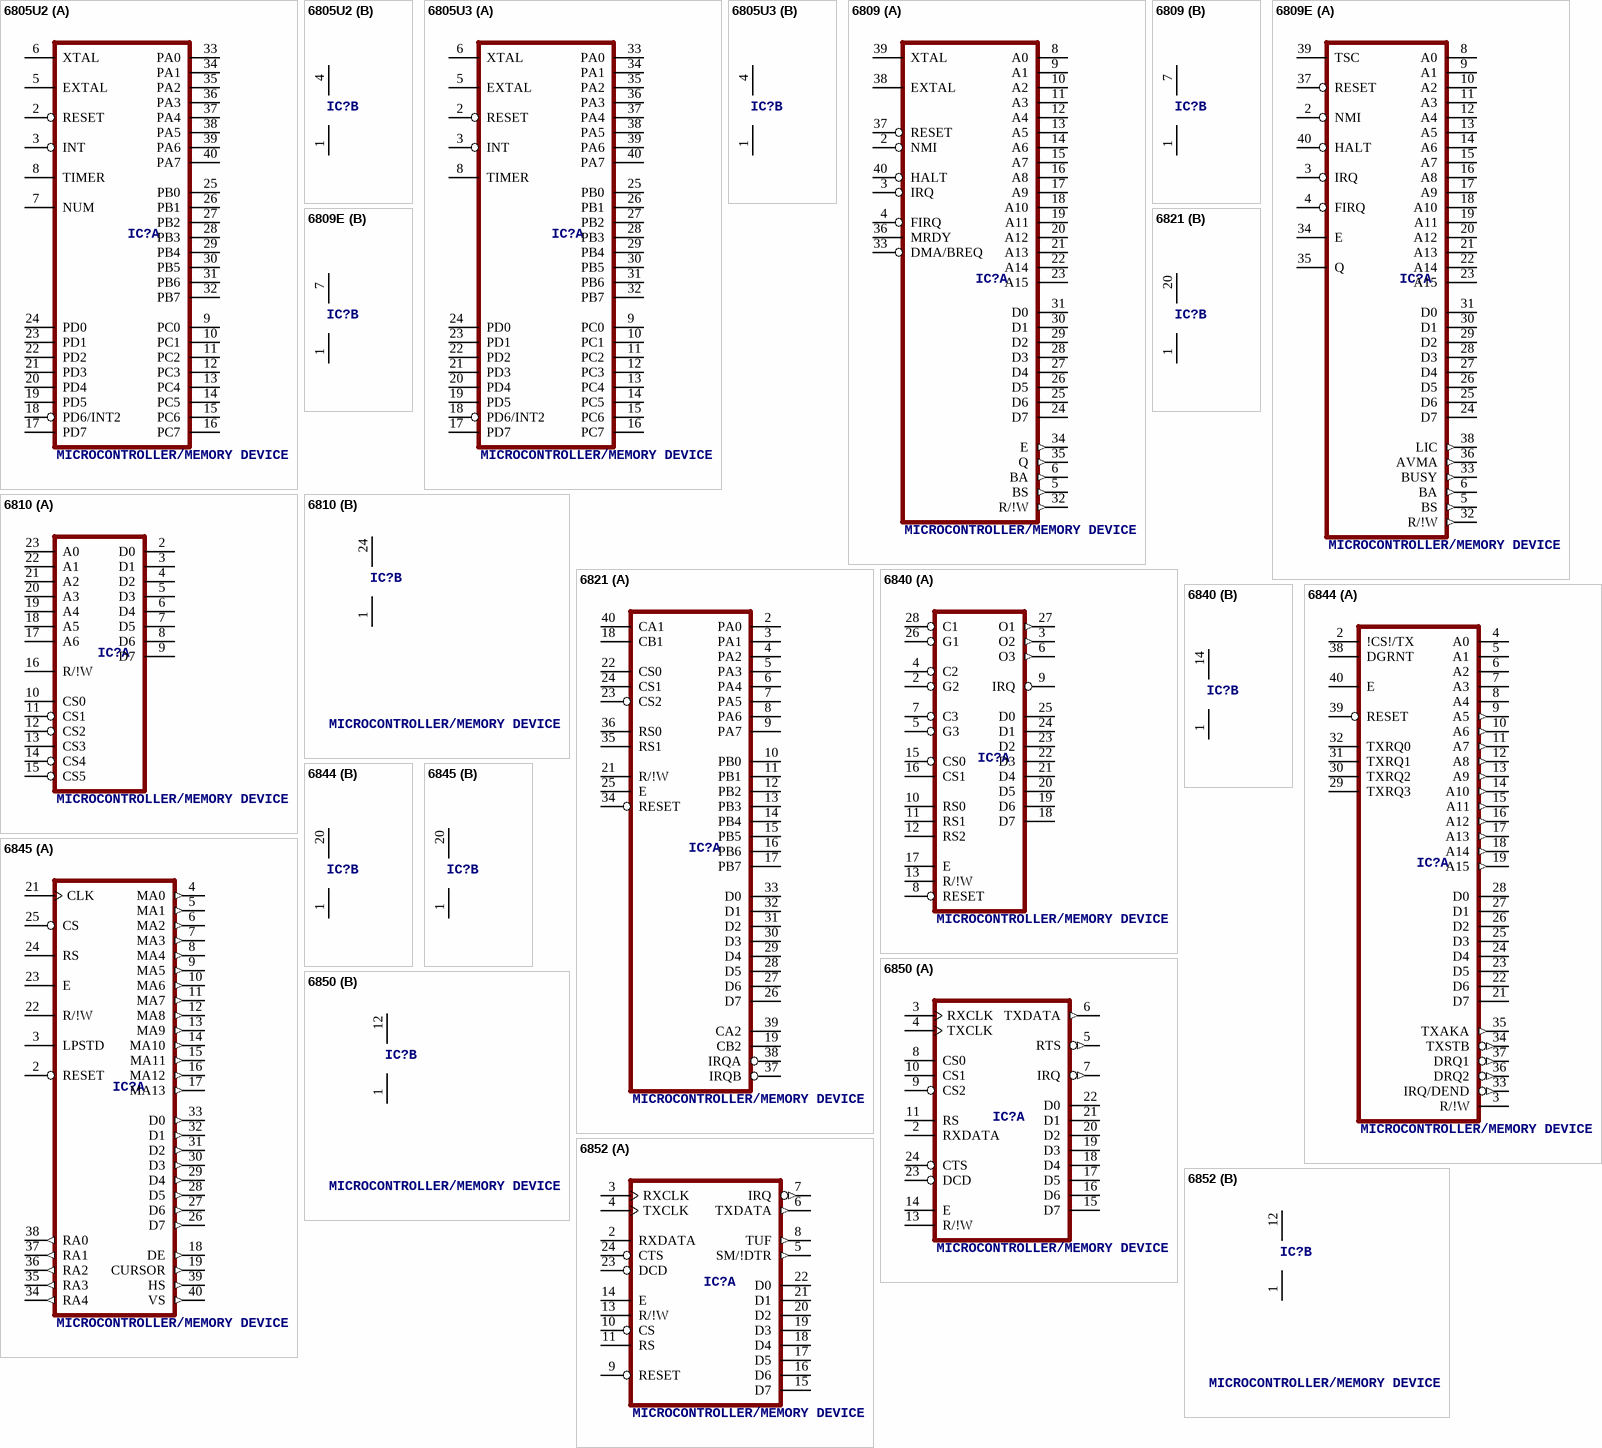
[diagram p6: symbols 6805U2 to 6852]

## 6805U2
designator IC?, comment MICROCONTROLLER/MEMORY DEVICE
OC_FARNELL: unknown; OC_NEWARK: unknown
footprint DIL40
part A pins: 2 RESET, 3 INT, 5 EXTAL, 6 XTAL, 7 NUM, 8 TIMER, 9 PC0, 10 PC1, 11 PC2, 12 PC3, 13 PC4, 14 PC5, 15 PC6, 16 PC7, 17 PD7, 18 PD6/INT2, 19 PD5, 20 PD4, 21 PD3, 22 PD2, 23 PD1, 24 PD0, 25 PB0, 26 PB1, 27 PB2, 28 PB3, 29 PB4, 30 PB5, 31 PB6, 32 PB7, 33 PA0, 34 PA1, 35 PA2, 36 PA3, 37 PA4, 38 PA5, 39 PA6, 40 PA7
part B pins: 1 VSS (power), 4 VCC (power)

## 6805U3
designator IC?, comment MICROCONTROLLER/MEMORY DEVICE
OC_FARNELL: unknown; OC_NEWARK: unknown
footprint DIL40
part A pins: 2 RESET, 3 INT, 5 EXTAL, 6 XTAL, 8 TIMER, 9 PC0, 10 PC1, 11 PC2, 12 PC3, 13 PC4, 14 PC5, 15 PC6, 16 PC7, 17 PD7, 18 PD6/INT2, 19 PD5, 20 PD4, 21 PD3, 22 PD2, 23 PD1, 24 PD0, 25 PB0, 26 PB1, 27 PB2, 28 PB3, 29 PB4, 30 PB5, 31 PB6, 32 PB7, 33 PA0, 34 PA1, 35 PA2, 36 PA3, 37 PA4, 38 PA5, 39 PA6, 40 PA7
part B pins: 1 VSS (power), 4 VCC (power)

## 6809
designator IC?, comment MICROCONTROLLER/MEMORY DEVICE
MPN: NTE6809; MF: NTE ELECTRONICS; OC_FARNELL: 4530354; OC_NEWARK: 31C2459
footprint DIL40
part A pins: 2 NMI, 3 IRQ, 4 FIRQ, 5 BS (out), 6 BA (out), 8 A0 (hiz), 9 A1 (hiz), 10 A2 (hiz), 11 A3 (hiz), 12 A4 (hiz), 13 A5 (hiz), 14 A6 (hiz), 15 A7 (hiz), 16 A8 (hiz), 17 A9 (hiz), 18 A10 (hiz), 19 A11 (hiz), 20 A12 (hiz), 21 A13 (hiz), 22 A14 (hiz), 23 A15 (hiz), 24 D7, 25 D6, 26 D5, 27 D4, 28 D3, 29 D2, 30 D1, 31 D0, 32 R/!W (out), 33 DMA/BREQ, 34 E (out), 35 Q (out), 36 MRDY, 37 RESET, 38 EXTAL, 39 XTAL, 40 HALT
part B pins: 1 VSS (power), 7 VCC (power)

## 6809E
designator IC?, comment MICROCONTROLLER/MEMORY DEVICE
MPN: NTE6809E; MF: NTE ELECTRONICS; OC_FARNELL: unknown; OC_NEWARK: 31C5318
footprint DIL40
part A pins: 2 NMI, 3 IRQ, 4 FIRQ, 5 BS (out), 6 BA (out), 8 A0 (hiz), 9 A1 (hiz), 10 A2 (hiz), 11 A3 (hiz), 12 A4 (hiz), 13 A5 (hiz), 14 A6 (hiz), 15 A7 (hiz), 16 A8 (hiz), 17 A9 (hiz), 18 A10 (hiz), 19 A11 (hiz), 20 A12 (hiz), 21 A13 (hiz), 22 A14 (hiz), 23 A15 (hiz), 24 D7, 25 D6, 26 D5, 27 D4, 28 D3, 29 D2, 30 D1, 31 D0, 32 R/!W (out), 33 BUSY (out), 34 E, 35 Q, 36 AVMA (out), 37 RESET, 38 LIC (out), 39 TSC, 40 HALT
part B pins: 1 VSS (power), 7 VCC (power)

## 6810
designator IC?, comment MICROCONTROLLER/MEMORY DEVICE
MPN: NTE6810; MF: NTE ELECTRONICS; OC_FARNELL: unknown; OC_NEWARK: 31C5319
footprint DIL24
part A pins: 2 D0, 3 D1, 4 D2, 5 D3, 6 D4, 7 D5, 8 D6, 9 D7, 10 CS0, 11 CS1, 12 CS2, 13 CS3, 14 CS4, 15 CS5, 16 R/!W, 17 A6, 18 A5, 19 A4, 20 A3, 21 A2, 22 A1, 23 A0
part B pins: 1 GND (power), 24 VCC (power)

## 6821
designator IC?, comment MICROCONTROLLER/MEMORY DEVICE
MPN: NTE6821; MF: NTE ELECTRONICS; OC_FARNELL: 1652403; OC_NEWARK: 29C4772
footprint DIL40
part A pins: 2 PA0, 3 PA1, 4 PA2, 5 PA3, 6 PA4, 7 PA5, 8 PA6, 9 PA7, 10 PB0, 11 PB1, 12 PB2, 13 PB3, 14 PB4, 15 PB5, 16 PB6, 17 PB7, 18 CB1, 19 CB2, 21 R/!W, 22 CS0, 23 CS2, 24 CS1, 25 E, 26 D7, 27 D6, 28 D5, 29 D4, 30 D3, 31 D2, 32 D1, 33 D0, 34 RESET, 35 RS1, 36 RS0, 37 IRQB (oc), 38 IRQA (oc), 39 CA2, 40 CA1
part B pins: 1 VSS (power), 20 VCC (power)

## 6840
designator IC?, comment MICROCONTROLLER/MEMORY DEVICE
OC_FARNELL: unknown; OC_NEWARK: unknown
footprint DIL28
part A pins: 2 G2, 3 O2 (out), 4 C2, 5 G3, 6 O3 (out), 7 C3, 8 RESET, 9 IRQ (oc), 10 RS0, 11 RS1, 12 RS2, 13 R/!W, 15 CS0, 16 CS1, 17 E, 18 D7, 19 D6, 20 D5, 21 D4, 22 D3, 23 D2, 24 D1, 25 D0, 26 G1, 27 O1 (out), 28 C1
part B pins: 1 VSS (power), 14 VCC (power)

## 6844
designator IC?, comment MICROCONTROLLER/MEMORY DEVICE
OC_FARNELL: unknown; OC_NEWARK: unknown
footprint DIL40
part A pins: 2 !CS!/TX, 3 R/!W, 4 A0, 5 A1, 6 A2, 7 A3, 8 A4, 9 A5 (out), 10 A6 (out), 11 A7 (out), 12 A8 (out), 13 A9 (out), 14 A10 (out), 15 A11 (out), 16 A12 (out), 17 A13 (out), 18 A14 (out), 19 A15 (out), 21 D7, 22 D6, 23 D5, 24 D4, 25 D3, 26 D2, 27 D1, 28 D0, 29 TXRQ3, 30 TXRQ2, 31 TXRQ1, 32 TXRQ0, 33 IRQ/DEND (out), 34 TXSTB (out), 35 TXAKA (out), 36 DRQ2 (out), 37 DRQ1 (out), 38 DGRNT, 39 RESET, 40 E
part B pins: 1 VSS (power), 20 VCC (power)

## 6845
designator IC?, comment MICROCONTROLLER/MEMORY DEVICE
OC_FARNELL: unknown; OC_NEWARK: unknown
footprint DIL40
part A pins: 2 RESET, 3 LPSTD, 4 MA0 (out), 5 MA1 (out), 6 MA2 (out), 7 MA3 (out), 8 MA4 (out), 9 MA5 (out), 10 MA6 (out), 11 MA7 (out), 12 MA8 (out), 13 MA9 (out), 14 MA10 (out), 15 MA11 (out), 16 MA12 (out), 17 MA13 (out), 18 DE (out), 19 CURSOR (out), 21 CLK, 22 R/!W, 23 E, 24 RS, 25 CS, 26 D7 (out), 27 D6 (out), 28 D5 (out), 29 D4 (out), 30 D3 (out), 31 D2 (out), 32 D1 (out), 33 D0 (out), 34 RA4 (out), 35 RA3 (out), 36 RA2 (out), 37 RA1 (out), 38 RA0 (out), 39 HS (out), 40 VS (out)
part B pins: 1 GND (power), 20 VCC (power)

## 6850
designator IC?, comment MICROCONTROLLER/MEMORY DEVICE
MPN: NTE6850; MF: NTE ELECTRONICS; OC_FARNELL: 4899775; OC_NEWARK: 31C2457
footprint DIL24
part A pins: 2 RXDATA, 3 RXCLK, 4 TXCLK, 5 RTS (out), 6 TXDATA (out), 7 IRQ (out), 8 CS0, 9 CS2, 10 CS1, 11 RS, 13 R/!W, 14 E, 15 D7, 16 D6, 17 D5, 18 D4, 19 D3, 20 D2, 21 D1, 22 D0, 23 DCD, 24 CTS
part B pins: 1 VSS (power), 12 VCC (power)

## 6852
designator IC?, comment MICROCONTROLLER/MEMORY DEVICE
OC_FARNELL: unknown; OC_NEWARK: unknown
footprint DIL24
part A pins: 2 RXDATA, 3 RXCLK, 4 TXCLK, 5 SM/!DTR (out), 6 TXDATA (out), 7 IRQ (out), 8 TUF (out), 9 RESET, 10 CS, 11 RS, 13 R/!W, 14 E, 15 D7, 16 D6, 17 D5, 18 D4, 19 D3, 20 D2, 21 D1, 22 D0, 23 DCD, 24 CTS
part B pins: 1 VSS (power), 12 VCC (power)

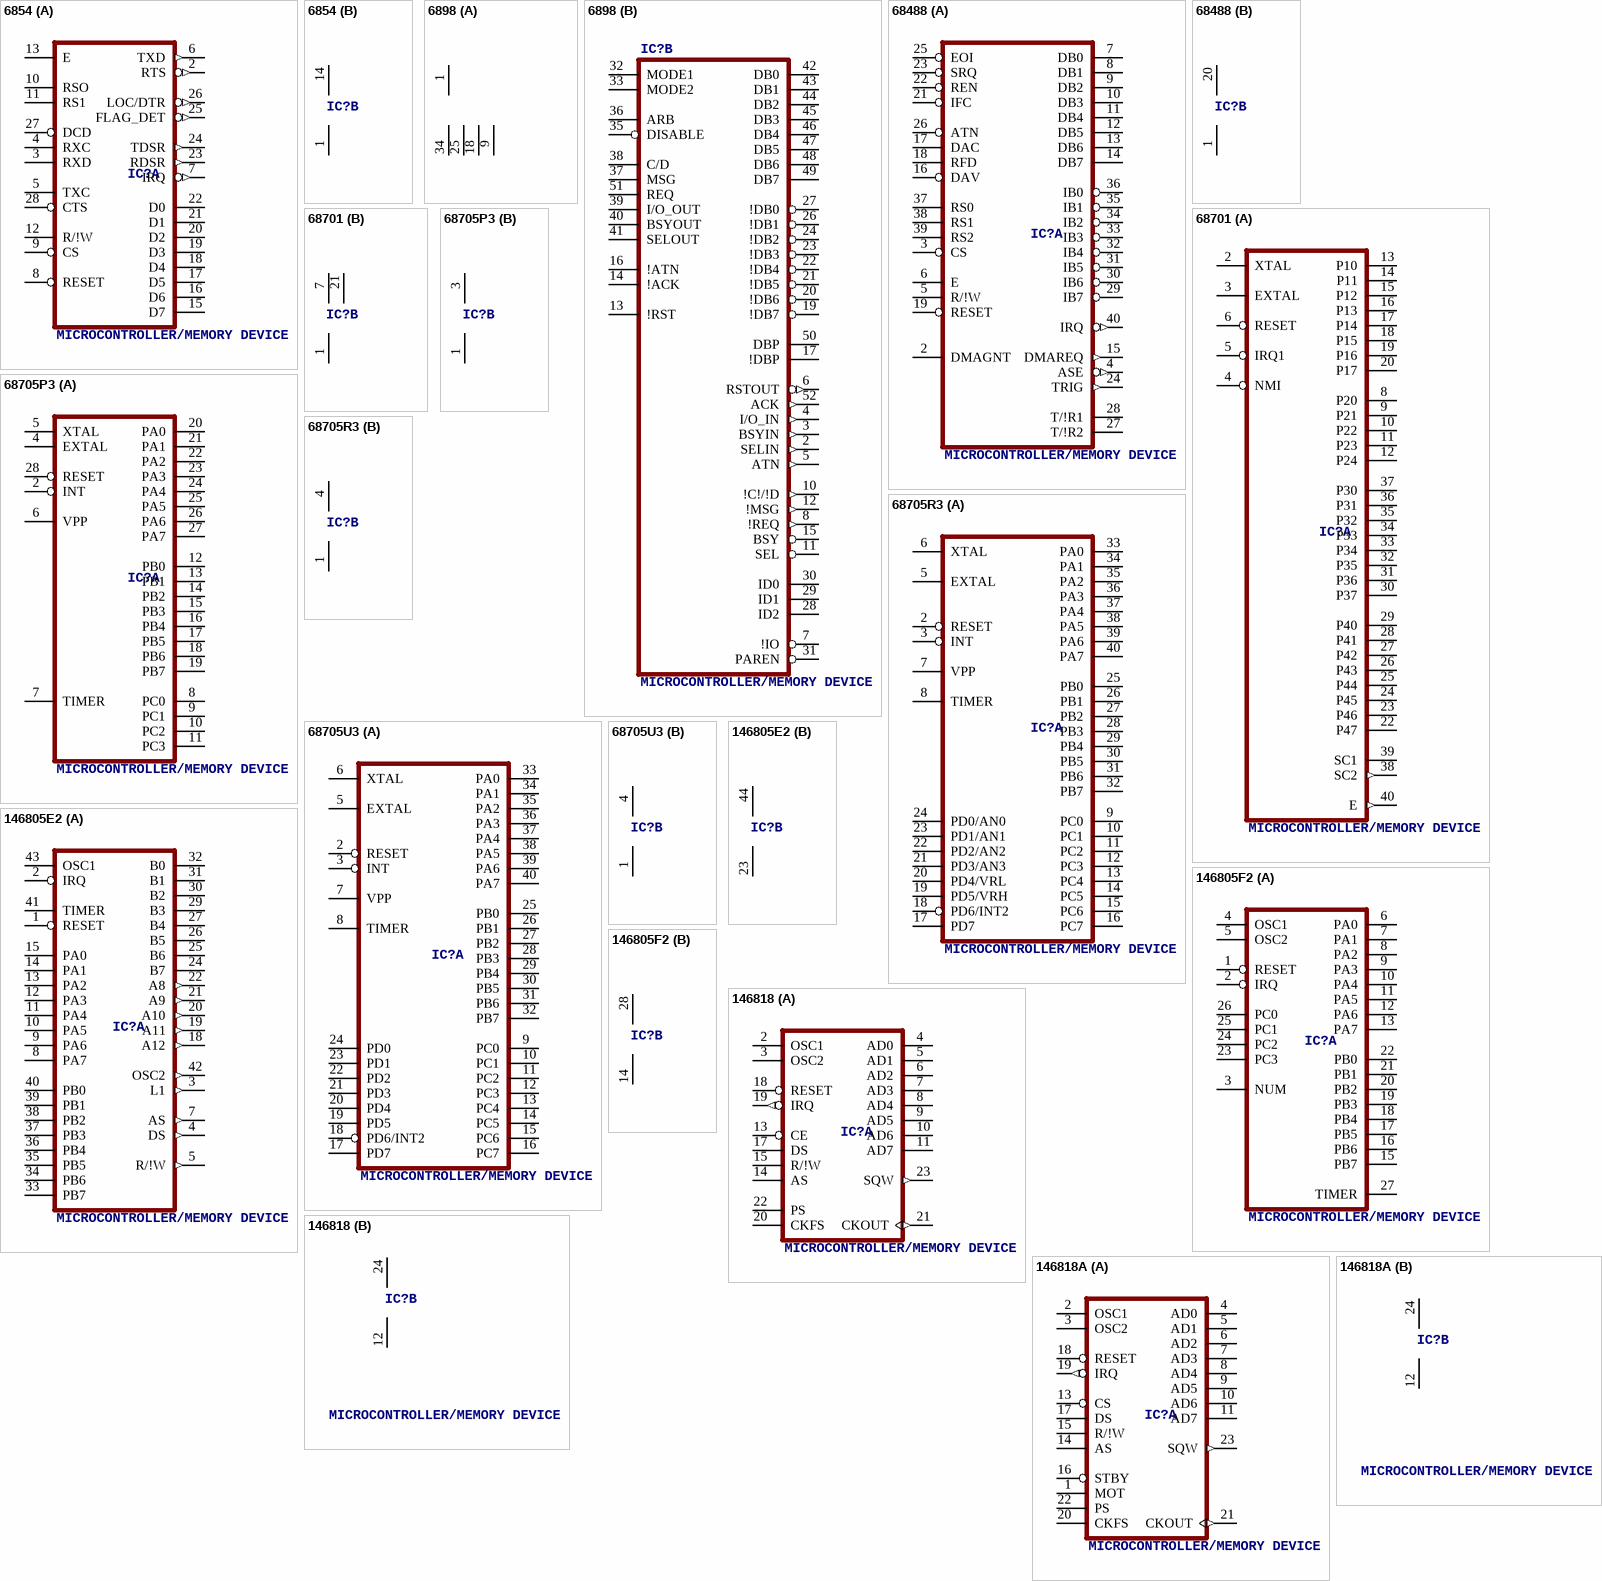
[diagram p7: symbols 6854 to 146818A]

## 6854
designator IC?, comment MICROCONTROLLER/MEMORY DEVICE
OC_FARNELL: unknown; OC_NEWARK: unknown
footprint DIL28
part A pins: 2 RTS (out), 3 RXD, 4 RXC, 5 TXC, 6 TXD (out), 7 IRQ (out), 8 RESET, 9 CS, 10 RSO, 11 RS1, 12 R/!W, 13 E, 15 D7, 16 D6, 17 D5, 18 D4, 19 D3, 20 D2, 21 D1, 22 D0, 23 RDSR (out), 24 TDSR (out), 25 FLAG_DET (out), 26 LOC/DTR (out), 27 DCD, 28 CTS
part B pins: 1 VSS (power), 14 VCC (power)

## 6898
designator IC?, comment MICROCONTROLLER/MEMORY DEVICE
OC_FARNELL: unknown; OC_NEWARK: unknown
footprint S52
part A pins: 1 VDD (power), 9 VSS@1 (power), 18 VSS@2 (power), 25 VSS@3 (power), 34 VSS@4 (power)
part B pins: 2 SELIN (out), 3 BSYIN (out), 4 I/O_IN (out), 5 ATN (out), 6 RSTOUT (out), 7 !IO, 8 !REQ (out), 10 !C!/!D (out), 11 SEL, 12 !MSG (out), 13 !RST, 14 !ACK, 15 BSY, 16 !ATN, 17 !DBP, 19 !DB7, 20 !DB6, 21 !DB5, 22 !DB4, 23 !DB3, 24 !DB2, 26 !DB1, 27 !DB0, 28 ID2, 29 ID1, 30 ID0, 31 PAREN, 32 MODE1, 33 MODE2, 35 DISABLE, 36 ARB, 37 MSG, 38 C/D, 39 I/O_OUT, 40 BSYOUT, 41 SELOUT, 42 DB0, 43 DB1, 44 DB2, 45 DB3, 46 DB4, 47 DB5, 48 DB6, 49 DB7, 50 DBP, 51 REQ, 52 ACK (out)

## 68488
designator IC?, comment MICROCONTROLLER/MEMORY DEVICE
OC_FARNELL: unknown; OC_NEWARK: unknown
footprint DIL40
part A pins: 2 DMAGNT, 3 CS, 4 ASE (out), 5 R/!W, 6 E, 7 DB0, 8 DB1, 9 DB2, 10 DB3, 11 DB4, 12 DB5, 13 DB6, 14 DB7, 15 DMAREQ (out), 16 DAV, 17 DAC, 18 RFD, 19 RESET, 21 IFC, 22 REN, 23 SRQ, 24 TRIG (out), 25 EOI, 26 ATN, 27 T/!R2, 28 T/!R1, 29 IB7, 30 IB6, 31 IB5, 32 IB4, 33 IB3, 34 IB2, 35 IB1, 36 IB0, 37 RS0, 38 RS1, 39 RS2, 40 IRQ (out)
part B pins: 1 VSS (power), 20 VCC (power)

## 68701
designator IC?, comment MICROCONTROLLER/MEMORY DEVICE
OC_FARNELL: unknown; OC_NEWARK: unknown
footprint DIL40
part A pins: 2 XTAL, 3 EXTAL, 4 NMI, 5 IRQ1, 6 RESET, 8 P20, 9 P21, 10 P22, 11 P23, 12 P24, 13 P10, 14 P11, 15 P12, 16 P13, 17 P14, 18 P15, 19 P16, 20 P17, 22 P47, 23 P46, 24 P45, 25 P44, 26 P43, 27 P42, 28 P41, 29 P40, 30 P37, 31 P36, 32 P35, 33 P34, 34 P33, 35 P32, 36 P31, 37 P30, 38 SC2 (out), 39 SC1, 40 E (out)
part B pins: 1 VSS (power), 7 VCC@1 (power), 21 VCC@2 (power)

## 68705P3
designator IC?, comment MICROCONTROLLER/MEMORY DEVICE
OC_FARNELL: unknown; OC_NEWARK: unknown
footprint DIL28
part A pins: 2 INT, 4 EXTAL, 5 XTAL, 6 VPP, 7 TIMER, 8 PC0, 9 PC1, 10 PC2, 11 PC3, 12 PB0, 13 PB1, 14 PB2, 15 PB3, 16 PB4, 17 PB5, 18 PB6, 19 PB7, 20 PA0, 21 PA1, 22 PA2, 23 PA3, 24 PA4, 25 PA5, 26 PA6, 27 PA7, 28 RESET
part B pins: 1 VSS (power), 3 VCC (power)

## 68705R3
designator IC?, comment MICROCONTROLLER/MEMORY DEVICE
OC_FARNELL: unknown; OC_NEWARK: unknown
footprint DIL40
part A pins: 2 RESET, 3 INT, 5 EXTAL, 6 XTAL, 7 VPP, 8 TIMER, 9 PC0, 10 PC1, 11 PC2, 12 PC3, 13 PC4, 14 PC5, 15 PC6, 16 PC7, 17 PD7, 18 PD6/INT2, 19 PD5/VRH, 20 PD4/VRL, 21 PD3/AN3, 22 PD2/AN2, 23 PD1/AN1, 24 PD0/AN0, 25 PB0, 26 PB1, 27 PB2, 28 PB3, 29 PB4, 30 PB5, 31 PB6, 32 PB7, 33 PA0, 34 PA1, 35 PA2, 36 PA3, 37 PA4, 38 PA5, 39 PA6, 40 PA7
part B pins: 1 VSS (power), 4 VCC (power)

## 68705U3
designator IC?, comment MICROCONTROLLER/MEMORY DEVICE
OC_FARNELL: unknown; OC_NEWARK: unknown
footprint DIL40
part A pins: 2 RESET, 3 INT, 5 EXTAL, 6 XTAL, 7 VPP, 8 TIMER, 9 PC0, 10 PC1, 11 PC2, 12 PC3, 13 PC4, 14 PC5, 15 PC6, 16 PC7, 17 PD7, 18 PD6/INT2, 19 PD5, 20 PD4, 21 PD3, 22 PD2, 23 PD1, 24 PD0, 25 PB0, 26 PB1, 27 PB2, 28 PB3, 29 PB4, 30 PB5, 31 PB6, 32 PB7, 33 PA0, 34 PA1, 35 PA2, 36 PA3, 37 PA4, 38 PA5, 39 PA6, 40 PA7
part B pins: 1 VSS (power), 4 VCC (power)

## 146805E2
designator IC?, comment MICROCONTROLLER/MEMORY DEVICE
OC_FARNELL: unknown; OC_NEWARK: unknown
footprint S44
part A pins: 1 RESET, 2 IRQ, 3 L1 (out), 4 DS (out), 5 R/!W (out), 7 AS (out), 8 PA7, 9 PA6, 10 PA5, 11 PA4, 12 PA3, 13 PA2, 14 PA1, 15 PA0, 18 A12 (out), 19 A11 (out), 20 A10 (out), 21 A9 (out), 22 A8 (out), 24 B7, 25 B6, 26 B5, 27 B4, 29 B3, 30 B2, 31 B1, 32 B0, 33 PB7, 34 PB6, 35 PB5, 36 PB4, 37 PB3, 38 PB2, 39 PB1, 40 PB0, 41 TIMER, 42 OSC2 (out), 43 OSC1
part B pins: 23 VSS (power), 44 VDD (power)

## 146805F2
designator IC?, comment MICROCONTROLLER/MEMORY DEVICE
OC_FARNELL: unknown; OC_NEWARK: unknown
footprint DIL28
part A pins: 1 RESET, 2 IRQ, 3 NUM, 4 OSC1, 5 OSC2, 6 PA0, 7 PA1, 8 PA2, 9 PA3, 10 PA4, 11 PA5, 12 PA6, 13 PA7, 15 PB7, 16 PB6, 17 PB5, 18 PB4, 19 PB3, 20 PB2, 21 PB1, 22 PB0, 23 PC3, 24 PC2, 25 PC1, 26 PC0, 27 TIMER
part B pins: 14 VSS (power), 28 VDD (power)

## 146818
designator IC?, comment MICROCONTROLLER/MEMORY DEVICE
OC_FARNELL: unknown; OC_NEWARK: unknown
footprint DIL24
part A pins: 2 OSC1, 3 OSC2, 4 AD0, 5 AD1, 6 AD2, 7 AD3, 8 AD4, 9 AD5, 10 AD6, 11 AD7, 13 CE, 14 AS, 15 R/!W, 17 DS, 18 RESET, 19 IRQ (out), 20 CKFS, 21 CKOUT (out), 22 PS, 23 SQW (out)
part B pins: 12 VSS (power), 24 VDD (power)

## 146818A
designator IC?, comment MICROCONTROLLER/MEMORY DEVICE
OC_FARNELL: unknown; OC_NEWARK: unknown
footprint DIL24
part A pins: 1 MOT, 2 OSC1, 3 OSC2, 4 AD0, 5 AD1, 6 AD2, 7 AD3, 8 AD4, 9 AD5, 10 AD6, 11 AD7, 13 CS, 14 AS, 15 R/!W, 16 STBY, 17 DS, 18 RESET, 19 IRQ (out), 20 CKFS, 21 CKOUT (out), 22 PS, 23 SQW (out)
part B pins: 12 VSS (power), 24 VDD (power)

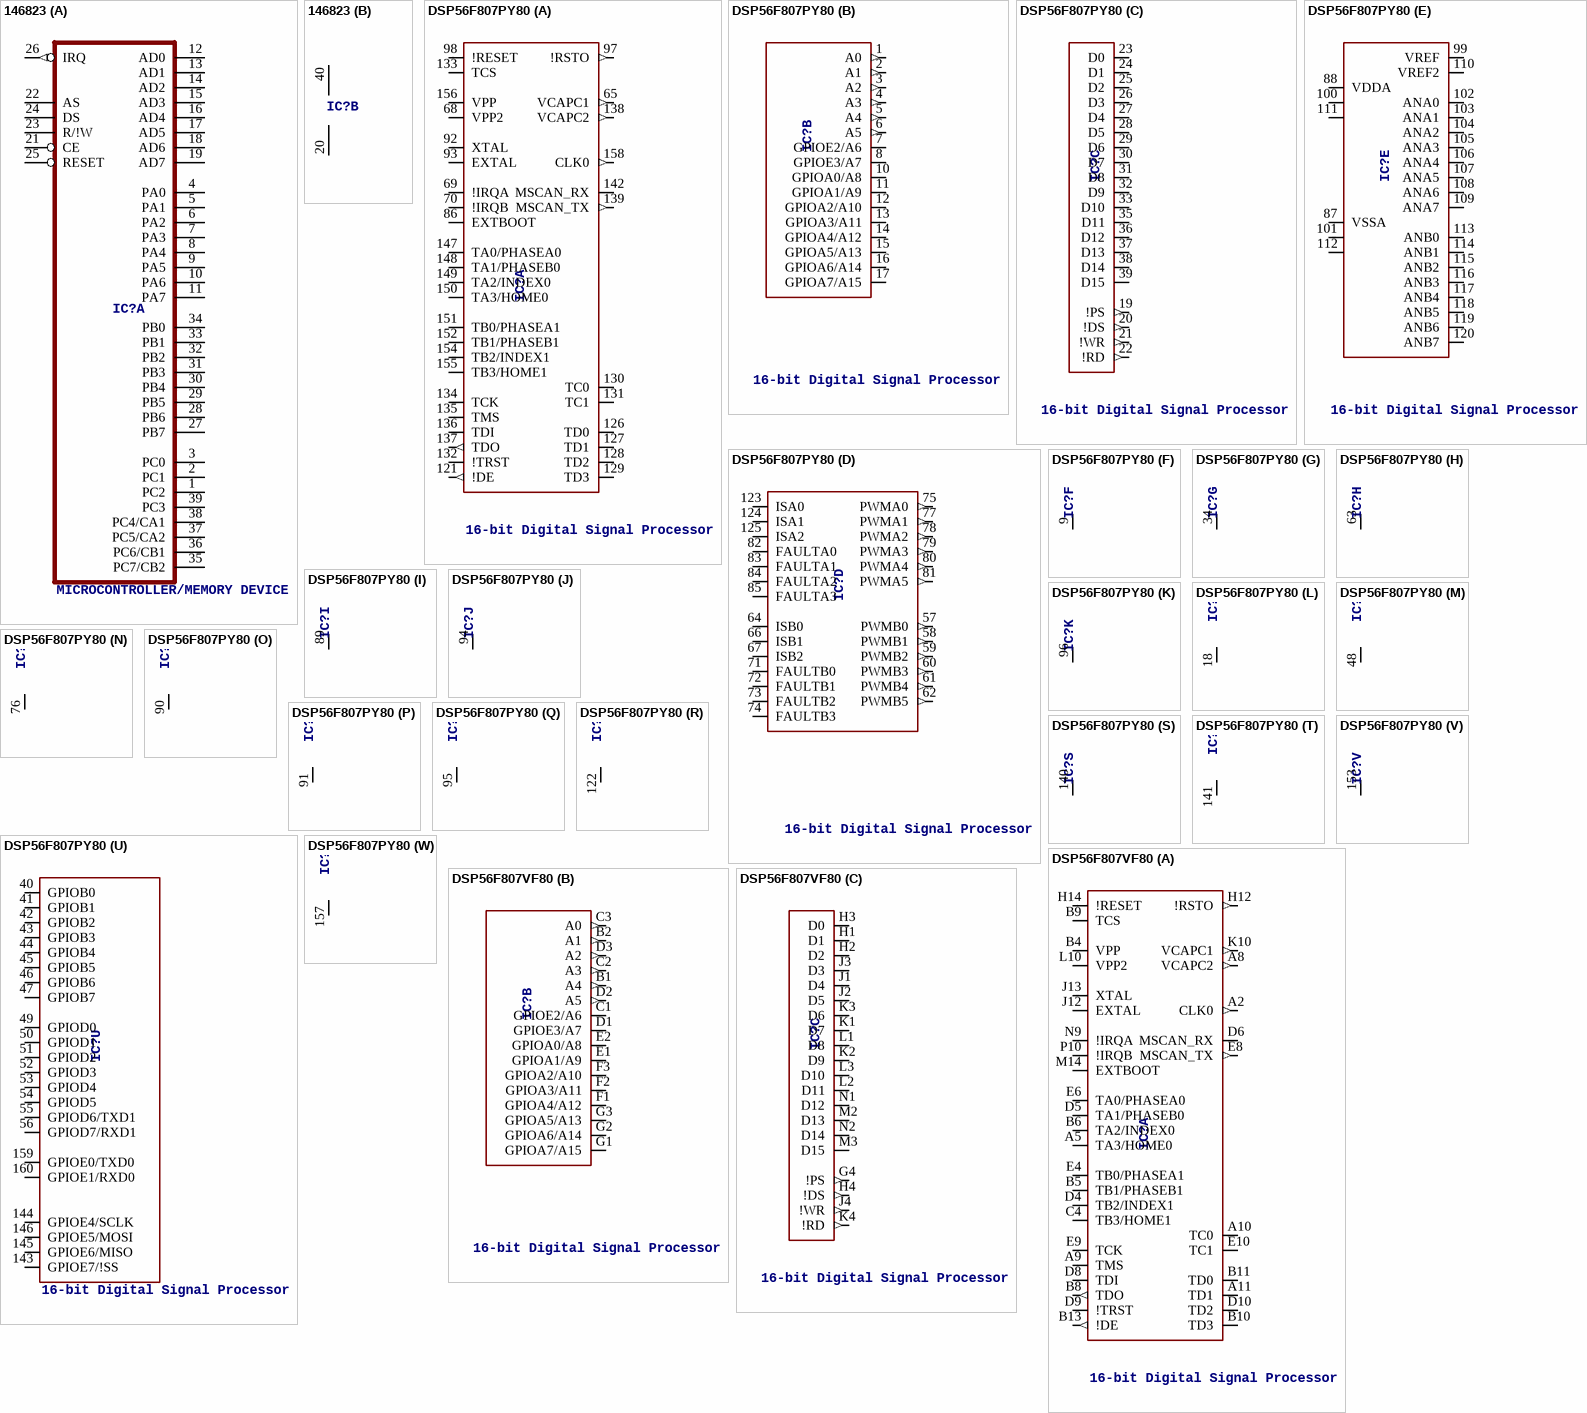
[diagram p8: symbols 146823 to DSP56F807VF80]

## 146823
designator IC?, comment MICROCONTROLLER/MEMORY DEVICE
OC_FARNELL: unknown; OC_NEWARK: unknown
footprint DIL40
part A pins: 1 PC2, 2 PC1, 3 PC0, 4 PA0, 5 PA1, 6 PA2, 7 PA3, 8 PA4, 9 PA5, 10 PA6, 11 PA7, 12 AD0, 13 AD1, 14 AD2, 15 AD3, 16 AD4, 17 AD5, 18 AD6, 19 AD7, 21 CE, 22 AS, 23 R/!W, 24 DS, 25 RESET, 26 IRQ (out), 27 PB7, 28 PB6, 29 PB5, 30 PB4, 31 PB3, 32 PB2, 33 PB1, 34 PB0, 35 PC7/CB2, 36 PC6/CB1, 37 PC5/CA2, 38 PC4/CA1, 39 PC3
part B pins: 20 VSS (power), 40 VDD (power)

## DSP56F807PY80
designator IC?, comment 16-bit Digital Signal Processor
MPN: DSP56F807PY80; MF: MOTOROLA; OC_FARNELL: 1691514; OC_NEWARK: 74C6821
footprint LQFP160
part A pins: 65 VCAPC1 (out), 68 VPP2, 69 !IRQA, 70 !IRQB, 86 EXTBOOT, 92 XTAL, 93 EXTAL, 97 !RSTO (out), 98 !RESET, 121 !DE (out), 126 TD0, 127 TD1, 128 TD2, 129 TD3, 130 TC0, 131 TC1, 132 !TRST, 133 TCS, 134 TCK, 135 TMS, 136 TDI, 137 TDO (out), 138 VCAPC2 (out), 139 MSCAN_TX (out), 142 MSCAN_RX, 147 TA0/PHASEA0, 148 TA1/PHASEB0, 149 TA2/INDEX0, 150 TA3/HOME0, 151 TB0/PHASEA1, 152 TB1/PHASEB1, 154 TB2/INDEX1, 155 TB3/HOME1, 156 VPP, 158 CLK0 (out)
part B pins: 1 A0 (out), 2 A1 (out), 3 A2 (out), 4 A3 (out), 5 A4 (out), 6 A5 (out), 7 GPIOE2/A6, 8 GPIOE3/A7, 10 GPIOA0/A8, 11 GPIOA1/A9, 12 GPIOA2/A10, 13 GPIOA3/A11, 14 GPIOA4/A12, 15 GPIOA5/A13, 16 GPIOA6/A14, 17 GPIOA7/A15
part C pins: 19 !PS (out), 20 !DS (out), 21 !WR (out), 22 !RD (out), 23 D0, 24 D1, 25 D2, 26 D3, 27 D4, 28 D5, 29 D6, 30 D7, 31 D8, 32 D9, 33 D10, 35 D11, 36 D12, 37 D13, 38 D14, 39 D15
part D pins: 57 PWMB0 (out), 58 PWMB1 (out), 59 PWMB2 (out), 60 PWMB3 (out), 61 PWMB4 (out), 62 PWMB5 (out), 64 ISB0, 66 ISB1, 67 ISB2, 71 FAULTB0, 72 FAULTB1, 73 FAULTB2, 74 FAULTB3, 75 PWMA0 (out), 77 PWMA1 (out), 78 PWMA2 (out), 79 PWMA3 (out), 80 PWMA4 (out), 81 PWMA5 (out), 82 FAULTA0, 83 FAULTA1, 84 FAULTA2, 85 FAULTA3, 123 ISA0, 124 ISA1, 125 ISA2
part E pins: 87 VSSA (power), 88 VDDA (power), 99 VREF, 100 VDDA@1 (power), 101 VSSA@1 (power), 102 ANA0, 103 ANA1, 104 ANA2, 105 ANA3, 106 ANA4, 107 ANA5, 108 ANA6, 109 ANA7, 110 VREF2, 111 VDDA@2 (power), 112 VSSA@2 (power), 113 ANB0, 114 ANB1, 115 ANB2, 116 ANB3, 117 ANB4, 118 ANB5, 119 ANB6, 120 ANB7
part F pins: 9 VDD (power)
part G pins: 34 VDD (power)
part H pins: 63 VDD (power)
part I pins: 89 VDD (power)
part J pins: 94 VDD (power)
part K pins: 96 VDD (power)
part L pins: 18 VSS (power)
part M pins: 48 VSS (power)
part N pins: 76 VSS (power)
part O pins: 90 VSS (power)
part P pins: 91 VSS (power)
part Q pins: 95 VSS (power)
part R pins: 122 VSS (power)
part S pins: 140 VDD (power)
part T pins: 141 VSS (power)
part U pins: 40 GPIOB0, 41 GPIOB1, 42 GPIOB2, 43 GPIOB3, 44 GPIOB4, 45 GPIOB5, 46 GPIOB6, 47 GPIOB7, 49 GPIOD0, 50 GPIOD1, 51 GPIOD2, 52 GPIOD3, 53 GPIOD4, 54 GPIOD5, 55 GPIOD6/TXD1, 56 GPIOD7/RXD1, 143 GPIOE7/!SS, 144 GPIOE4/SCLK, 145 GPIOE6/MISO, 146 GPIOE5/MOSI, 159 GPIOE0/TXD0, 160 GPIOE1/RXD0
part V pins: 153 VDD (power)
part W pins: 157 VSS (power)

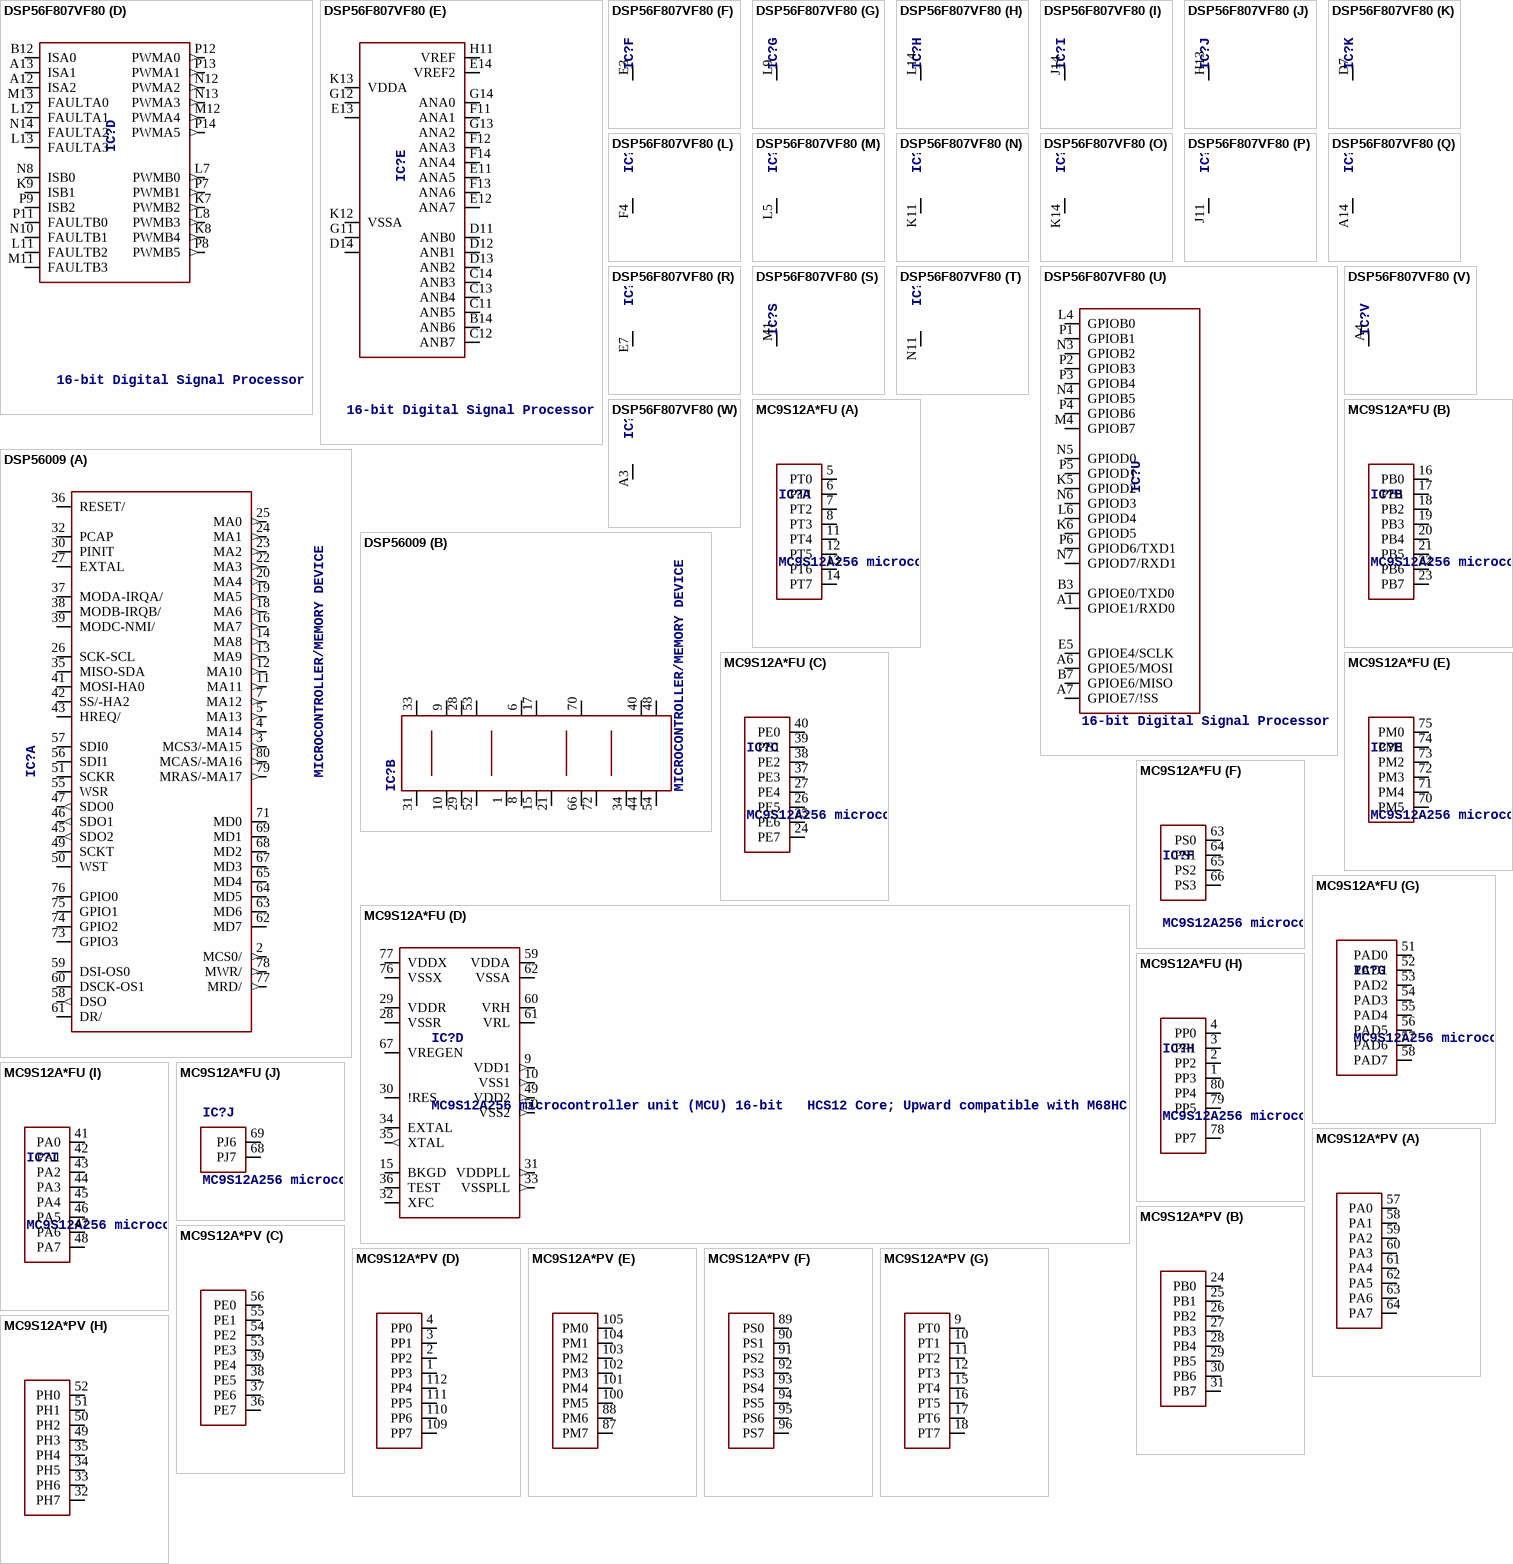
[diagram p9: symbols DSP56F807VF80 to MC9S12A*PV]

## DSP56F807VF80
designator IC?, comment 16-bit Digital Signal Processor
OC_FARNELL: 1691535; OC_NEWARK: unknown
footprint MAPBGA160
part A pins: A2 CLK0 (out), A5 TA3/HOME0, A8 VCAPC2 (out), A9 TMS, A10 TC0, A11 TD1, B4 VPP, B5 TB1/PHASEB1, B6 TA2/INDEX0, B8 TDO (out), B9 TCS, B10 TD3, B11 TD0, B13 !DE (out), C4 TB3/HOME1, D4 TB2/INDEX1, D5 TA1/PHASEB0, D6 MSCAN_RX, D8 TDI, D9 !TRST, D10 TD2, E4 TB0/PHASEA1, E6 TA0/PHASEA0, E8 MSCAN_TX (out), E9 TCK, E10 TC1, H12 !RSTO (out), H14 !RESET, J12 EXTAL, J13 XTAL, K10 VCAPC1 (out), L10 VPP2, M14 EXTBOOT, N9 !IRQA, P10 !IRQB
part B pins: B1 A4 (out), B2 A1 (out), C1 GPIOE2/A6, C2 A3 (out), C3 A0 (out), D1 GPIOE3/A7, D2 A5 (out), D3 A2 (out), E1 GPIOA1/A9, E2 GPIOA0/A8, F1 GPIOA4/A12, F2 GPIOA3/A11, F3 GPIOA2/A10, G1 GPIOA7/A15, G2 GPIOA6/A14, G3 GPIOA5/A13
part C pins: G4 !PS (out), H1 D1, H2 D2, H3 D0, H4 !DS (out), J1 D4, J2 D5, J3 D3, J4 !WR (out), K1 D7, K2 D9, K3 D6, K4 !RD (out), L1 D8, L2 D11, L3 D10, M2 D13, M3 D15, N1 D12, N2 D14
part D pins: A12 ISA2, A13 ISA1, B12 ISA0, K7 PWMB2 (out), K8 PWMB4 (out), K9 ISB1, L7 PWMB0 (out), L8 PWMB3 (out), L11 FAULTB2, L12 FAULTA1, L13 FAULTA3, M11 FAULTB3, M12 PWMA4 (out), M13 FAULTA0, N8 ISB0, N10 FAULTB1, N12 PWMA2 (out), N13 PWMA3 (out), N14 FAULTA2, P7 PWMB1 (out), P8 PWMB5 (out), P9 ISB2, P11 FAULTB0, P12 PWMA0 (out), P13 PWMA1 (out), P14 PWMA5 (out)
part E pins: B14 ANB6, C11 ANB5, C12 ANB7, C13 ANB4, C14 ANB3, D11 ANB0, D12 ANB1, D13 ANB2, D14 VSSA@2 (power), E11 ANA5, E12 ANA7, E13 VDDA@2 (power), E14 VREF2, F11 ANA1, F12 ANA3, F13 ANA6, F14 ANA4, G11 VSSA@1 (power), G12 VDDA@1 (power), G13 ANA2, G14 ANA0, H11 VREF, K12 VSSA (power), K13 VDDA (power)
part F pins: E3 VDD (power)
part G pins: L9 VDD (power)
part H pins: L14 VDD (power)
part I pins: J14 VDD (power)
part J pins: H13 VDD (power)
part K pins: D7 VDD (power)
part L pins: F4 VSS (power)
part M pins: L5 VSS (power)
part N pins: K11 VSS (power)
part O pins: K14 VSS (power)
part P pins: J11 VSS (power)
part Q pins: A14 VSS (power)
part R pins: E7 VSS (power)
part S pins: M1 VDD (power)
part T pins: N11 VSS (power)
part U pins: A1 GPIOE1/RXD0, A6 GPIOE5/MOSI, A7 GPIOE7/!SS, B3 GPIOE0/TXD0, B7 GPIOE6/MISO, E5 GPIOE4/SCLK, K5 GPIOD2, K6 GPIOD5, L4 GPIOB0, L6 GPIOD4, M4 GPIOB7, N3 GPIOB2, N4 GPIOB5, N5 GPIOD0, N6 GPIOD3, N7 GPIOD7/RXD1, P1 GPIOB1, P2 GPIOB3, P3 GPIOB4, P4 GPIOB6, P5 GPIOD1, P6 GPIOD6/TXD1
part V pins: A4 VDD (power)
part W pins: A3 VSS (power)

## DSP56009
designator IC?, comment MICROCONTROLLER/MEMORY DEVICE
OC_FARNELL: unknown; OC_NEWARK: unknown
footprint QFP80
part A pins: 2 MCS0/ (out), 3 MCS3/-MA15 (out), 4 MA14 (out), 5 MA13 (out), 7 MA12 (out), 11 MA11 (out), 12 MA10 (out), 13 MA9 (out), 14 MA8 (out), 16 MA7 (out), 18 MA6 (out), 19 MA5 (out), 20 MA4 (out), 22 MA3 (out), 23 MA2 (out), 24 MA1 (out), 25 MA0 (out), 26 SCK-SCL, 27 EXTAL, 30 PINIT, 32 PCAP, 35 MISO-SDA, 36 RESET/, 37 MODA-IRQA/, 38 MODB-IRQB/, 39 MODC-NMI/, 41 MOSI-HA0, 42 SS/-HA2, 43 HREQ/, 45 SDO2 (out), 46 SDO1 (out), 47 SDO0 (out), 49 SCKT, 50 WST, 51 SCKR, 55 WSR, 56 SDI1, 57 SDI0, 58 DSO (out), 59 DSI-OS0, 60 DSCK-OS1, 61 DR/, 62 MD7, 63 MD6, 64 MD5, 65 MD4, 67 MD3, 68 MD2, 69 MD1, 71 MD0, 73 GPIO3, 74 GPIO2, 75 GPIO1, 76 GPIO0, 77 MRD/ (out), 78 MWR/ (out), 79 MRAS/-MA17 (out), 80 MCAS/-MA16 (out)
part B pins: 1 GNDA@1 (power), 6 VCCA@1 (power), 8 GNDA@2 (power), 9 VCCQ@1 (power), 10 GNDQ@1 (power), 15 GNDA@3 (power), 17 VCCA@2 (power), 21 GNDA@4 (power), 28 VCCQ@2 (power), 29 GNDQ@2 (power), 31 GNDP (power), 33 VCCP (power), 34 GNDS@1 (power), 40 VCCS@1 (power), 44 GNDS@2 (power), 48 VCCS@2 (power), 52 GNDQ@3 (power), 53 VCCQ@3 (power), 54 GNDS@3 (power), 66 GNDD@1 (power), 70 VCCD (power), 72 GNDD@2 (power)

## MC9S12A*FU
designator IC?, comment MC9S12A256 microcontroller unit (MCU) 16-bit   HCS12 Core; Upward compatible with M68HC11 instruction set Source: 9S12A128DGV1.pdf; 9S12A256DGV1.pdf
MPN: MC9S12A128CFU; MPN: MC9S12A256CFU; MF: MOTOROLA; OC_FARNELL: 8686688; OC_NEWARK: 86H4600; OC_FARNELL: 1165784; OC_NEWARK: 62K5176
footprint QFP80-841
part A pins: 5 PT0, 6 PT1, 7 PT2, 8 PT3, 11 PT4, 12 PT5, 13 PT6, 14 PT7
part B pins: 16 PB0, 17 PB1, 18 PB2, 19 PB3, 20 PB4, 21 PB5, 22 PB6, 23 PB7
part C pins: 24 PE7, 25 PE6, 26 PE5, 27 PE4, 37 PE3, 38 PE2, 39 PE1, 40 PE0
part D pins: 9 VDD1 (out), 10 VSS1 (out), 15 BKGD (oc), 28 VSSR (power), 29 VDDR (power), 30 !RES, 31 VDDPLL (out), 32 XFC, 33 VSSPLL (out), 34 EXTAL, 35 XTAL (out), 36 TEST, 49 VDD2 (out), 50 VSS2 (out), 59 VDDA (power), 60 VRH, 61 VRL, 62 VSSA (power), 67 VREGEN, 76 VSSX (power), 77 VDDX (power)
part E pins: 70 PM5, 71 PM4, 72 PM3, 73 PM2, 74 PM1, 75 PM0
part F pins: 63 PS0, 64 PS1, 65 PS2, 66 PS3
part G pins: 51 PAD0, 52 PAD1, 53 PAD2, 54 PAD3, 55 PAD4, 56 PAD5, 57 PAD6, 58 PAD7
part H pins: 1 PP3, 2 PP2, 3 PP1, 4 PP0, 78 PP7, 79 PP5, 80 PP4
part I pins: 41 PA0, 42 PA1, 43 PA2, 44 PA3, 45 PA4, 46 PA5, 47 PA6, 48 PA7
part J pins: 68 PJ7, 69 PJ6

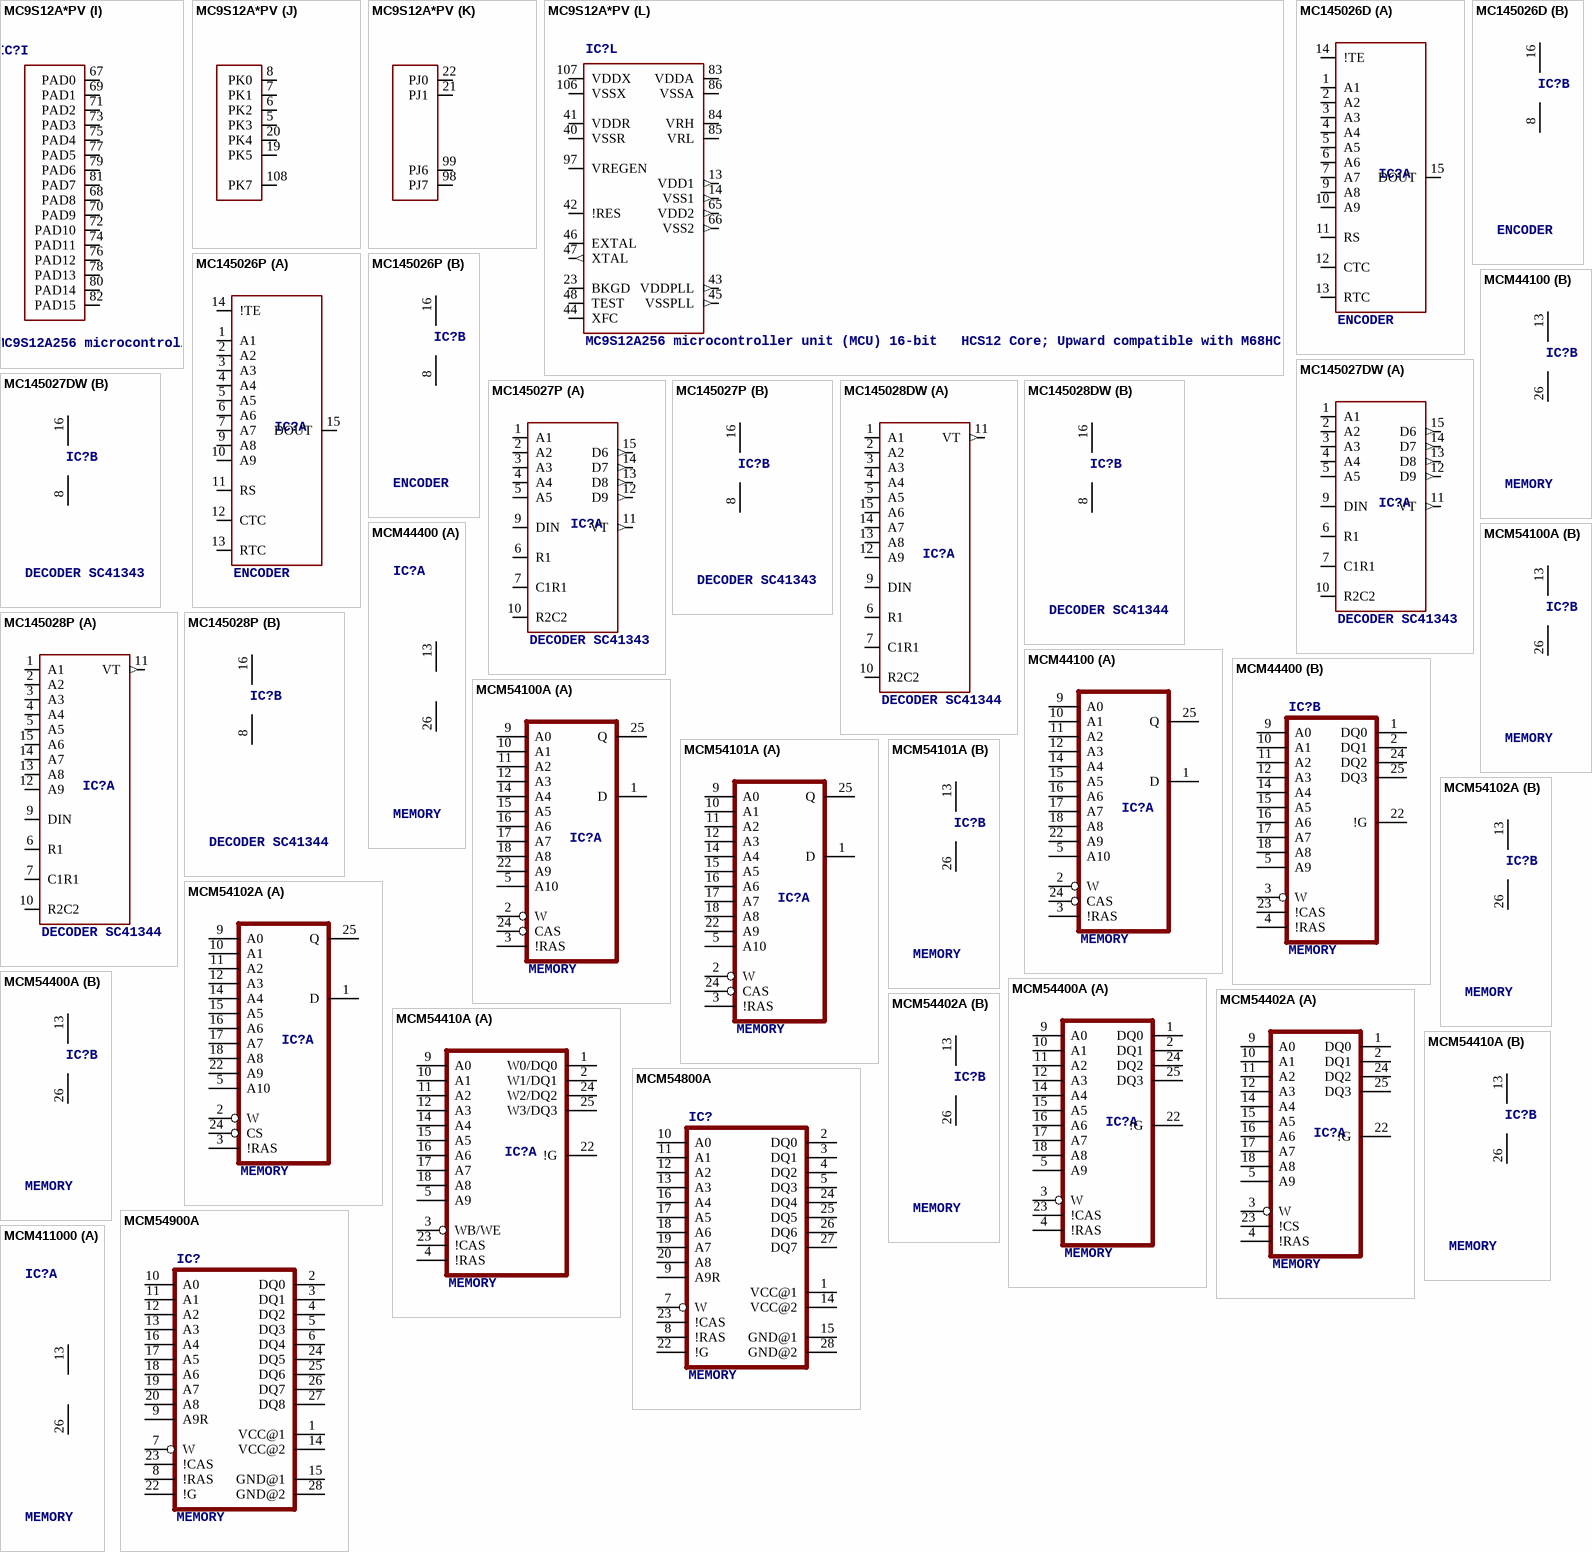
[diagram p10: symbols MC9S12A*PV to MCM411000]

## MC9S12A*PV
designator IC?, comment MC9S12A256 microcontroller unit (MCU) 16-bit   HCS12 Core; Upward compatible with M68HC11 instruction set Source: 9S12A128DGV1.pdf; 9S12A256DGV1.pdf
MPN: MC9S12A128CPV; MPN: MC9S12A256CPVE; MF: MOTOROLA; OC_FARNELL: unknown; OC_NEWARK: 86H4601; OC_FARNELL: 1165785; OC_NEWARK: 70K3218
footprint TQFP112
part A pins: 57 PA0, 58 PA1, 59 PA2, 60 PA3, 61 PA4, 62 PA5, 63 PA6, 64 PA7
part B pins: 24 PB0, 25 PB1, 26 PB2, 27 PB3, 28 PB4, 29 PB5, 30 PB6, 31 PB7
part C pins: 36 PE7, 37 PE6, 38 PE5, 39 PE4, 53 PE3, 54 PE2, 55 PE1, 56 PE0
part D pins: 1 PP3, 2 PP2, 3 PP1, 4 PP0, 109 PP7, 110 PP6, 111 PP5, 112 PP4
part E pins: 87 PM7, 88 PM6, 100 PM5, 101 PM4, 102 PM3, 103 PM2, 104 PM1, 105 PM0
part F pins: 89 PS0, 90 PS1, 91 PS2, 92 PS3, 93 PS4, 94 PS5, 95 PS6, 96 PS7
part G pins: 9 PT0, 10 PT1, 11 PT2, 12 PT3, 15 PT4, 16 PT5, 17 PT6, 18 PT7
part H pins: 32 PH7, 33 PH6, 34 PH5, 35 PH4, 49 PH3, 50 PH2, 51 PH1, 52 PH0
part I pins: 67 PAD0, 68 PAD8, 69 PAD1, 70 PAD9, 71 PAD2, 72 PAD10, 73 PAD3, 74 PAD11, 75 PAD4, 76 PAD12, 77 PAD5, 78 PAD13, 79 PAD6, 80 PAD14, 81 PAD7, 82 PAD15
part J pins: 5 PK3, 6 PK2, 7 PK1, 8 PK0, 19 PK5, 20 PK4, 108 PK7
part K pins: 21 PJ1, 22 PJ0, 98 PJ7, 99 PJ6
part L pins: 13 VDD1 (out), 14 VSS1 (out), 23 BKGD (oc), 40 VSSR (power), 41 VDDR (power), 42 !RES, 43 VDDPLL (out), 44 XFC, 45 VSSPLL (out), 46 EXTAL, 47 XTAL (out), 48 TEST, 65 VDD2 (out), 66 VSS2 (out), 83 VDDA (power), 84 VRH, 85 VRL, 86 VSSA (power), 97 VREGEN, 106 VSSX (power), 107 VDDX (power)

## MC145026D
designator IC?, comment ENCODER
OC_FARNELL: unknown; OC_NEWARK: unknown
footprint SO16
part A pins: 1 A1, 2 A2, 3 A3, 4 A4, 5 A5, 6 A6, 7 A7, 9 A8, 10 A9, 11 RS, 12 CTC, 13 RTC, 14 !TE, 15 DOUT
part B pins: 8 VSS (power), 16 VDD (power)

## MC145026P
designator IC?, comment ENCODER
OC_FARNELL: unknown; OC_NEWARK: unknown
footprint DIL16
part A pins: 1 A1, 2 A2, 3 A3, 4 A4, 5 A5, 6 A6, 7 A7, 9 A8, 10 A9, 11 RS, 12 CTC, 13 RTC, 14 !TE, 15 DOUT
part B pins: 8 VSS (power), 16 VDD (power)

## MC145027DW
designator IC?, comment DECODER SC41343
OC_FARNELL: unknown; OC_NEWARK: unknown
footprint SO16W
part A pins: 1 A1, 2 A2, 3 A3, 4 A4, 5 A5, 6 R1, 7 C1R1, 9 DIN, 10 R2C2, 11 VT (out), 12 D9 (out), 13 D8 (out), 14 D7 (out), 15 D6 (out)
part B pins: 8 VSS (power), 16 VDD (power)